# Altium schematic symbol library Schematic-Lib-ABahlmann-IC.SchLib: 124 symbols (part 3 of 4)
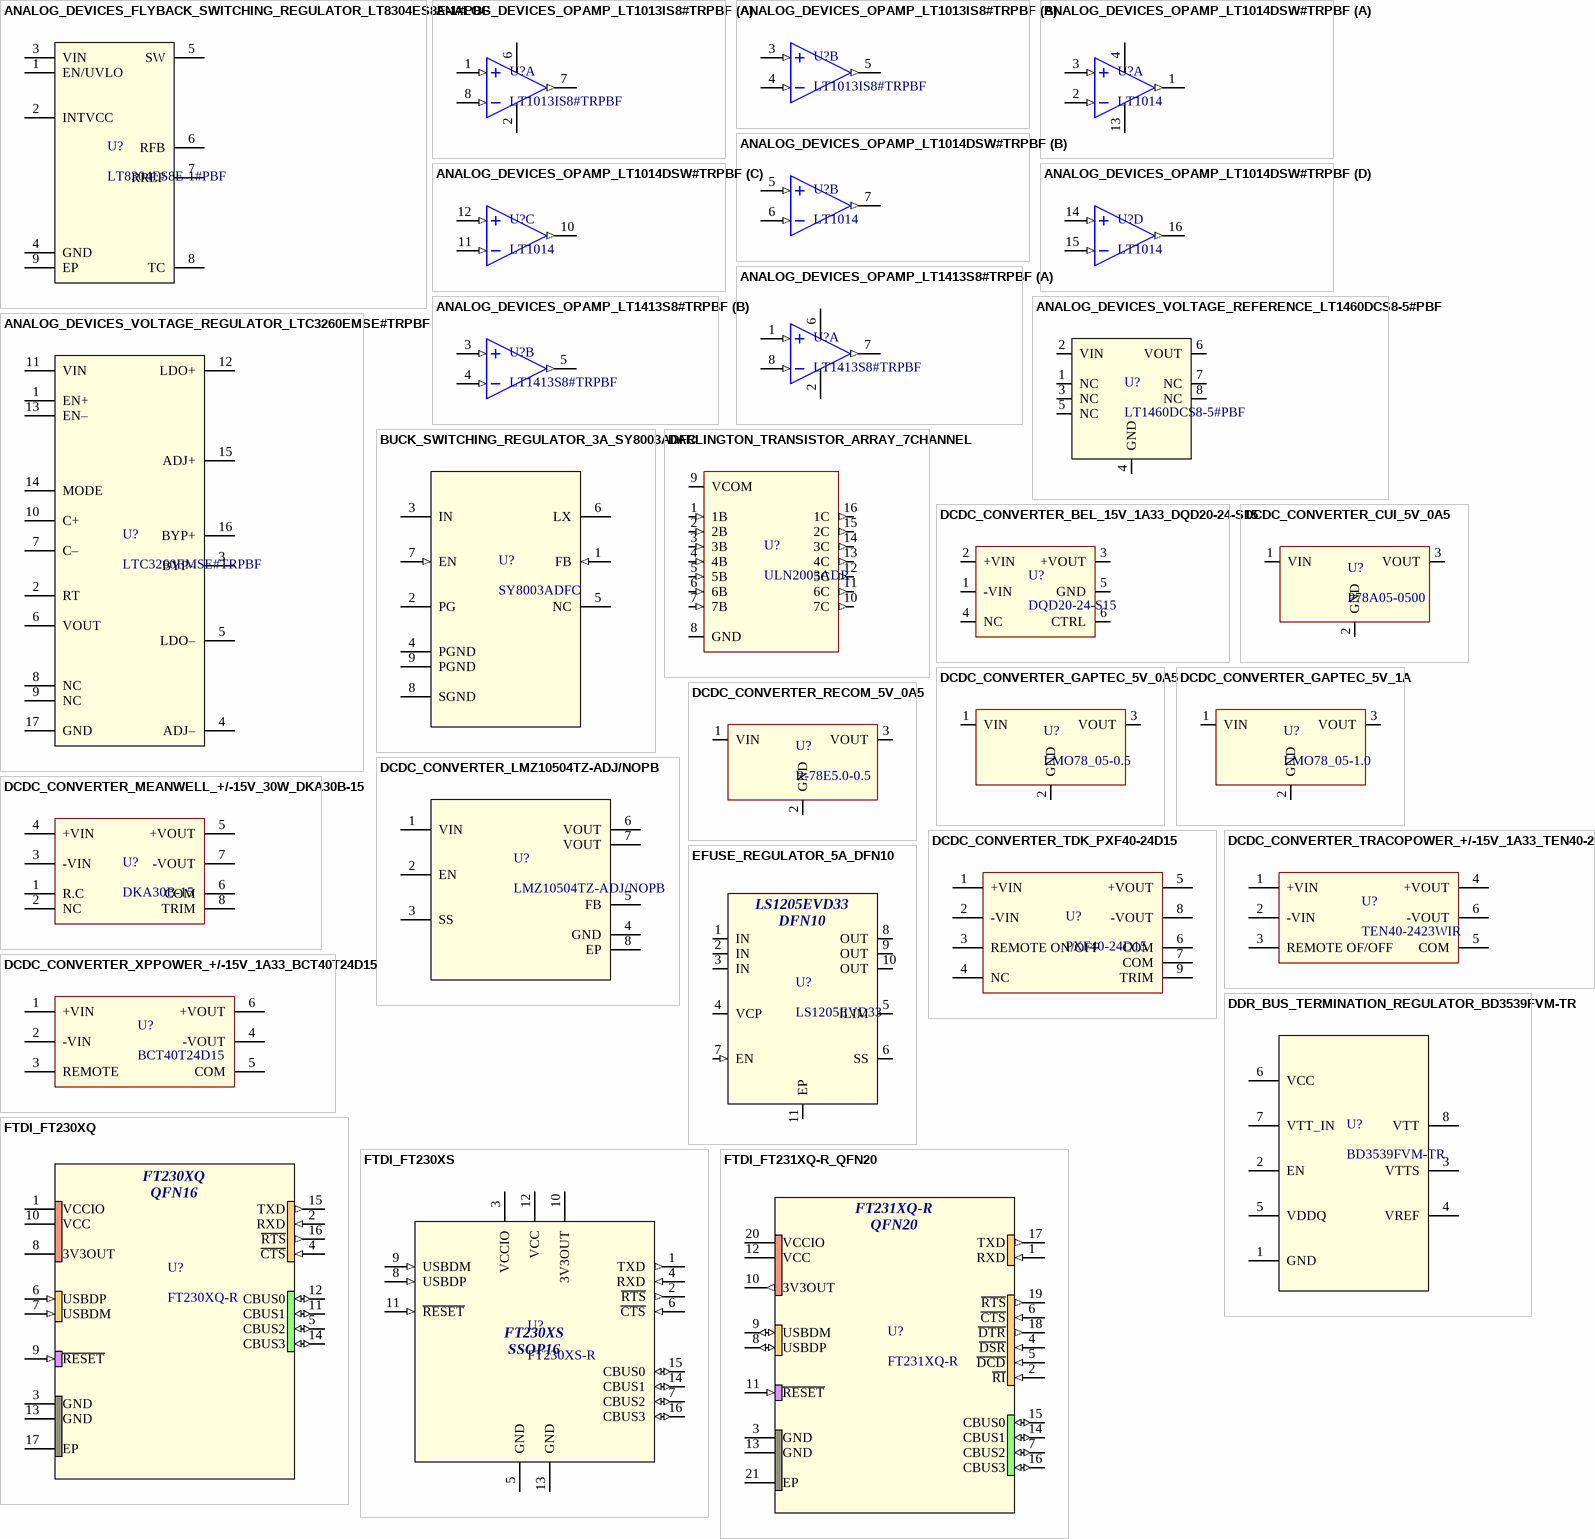
[diagram p23: symbols ANALOG_DEVICES_FLYBACK_SWITCHING_REGULATOR_LT8304ES8E-1#PBF to FTDI_FT231XQ-R_QFN20]

## EFUSE_REGULATOR_5A_DFN10
designator U?, comment LS1205EVD33
Electronic Fuse Regulator 5A 10-DFN (3x3); ComponentLink1Description: Digikey; ComponentLink1URL: https://www.digikey.ca/en/products/detail/littelfuse-inc/LS1205EVD33/16680651?s=N4IgTCBcDaIDIGUCMYAMBWAogNQCIGZ8QBdAXyA; ComponentLink2Description: Datasheet; ComponentLink2URL: https://www.littelfuse.com/assetdocs/littelfuse-protection-ic-ls1205exd33--datasheet?assetguid=b40a8809-c1ad-459d-a34c-84532dbddcb7
pins: 1 IN (power), 2 IN (power), 3 IN (power), 4 VCP, 5 ILIM, 6 SS, 7 EN (in), 8 OUT (power), 9 OUT (power), 10 OUT (power), 11 EP (power)
text: DFN10

## FTDI_FT230XQ
designator U?, comment FT230XQ-R
USB Bridge, USB to UART USB 2.0 UART Interface 16-QFN (4x4); ComponentLink1Description: Digikey; ComponentLink1URL: https://www.digikey.ca/en/products/detail/ftdi-future-technology-devices-international-ltd/FT230XQ-R/3029142; ComponentLink2Description: Datasheet; ComponentLink2URL: https://ftdichip.com/wp-content/uploads/2025/06/DS_FT230X.pdf
footprint QFN16-4x4
pins: 1 VCCIO (power), 2 RXD (in), 3 GND (power), 4 ~{CTS} (in), 5 CBUS2 (io), 6 USBDP (in), 7 USBDM (in), 8 3V3OUT (power), 9 ~{RESET} (in), 10 VCC (power), 11 CBUS1 (io), 12 CBUS0 (io), 13 GND (power), 14 CBUS3 (io), 15 TXD (out), 16 ~{RTS} (out), 17 EP (power)
text: FT230XQ; QFN16

## FTDI_FT230XS
designator U?, comment FT230XS-R
USB Bridge, USB to UART USB 2.0 UART Interface 16-SSOP; ComponentLink1Description: Digikey; ComponentLink1URL: https://www.digikey.ca/en/products/detail/ftdi-future-technology-devices-international-ltd/FT230XS-R/3029141; ComponentLink2Description: Datasheet; ComponentLink2URL: https://ftdichip.com/wp-content/uploads/2025/06/DS_FT230X.pdf
footprint SSOP-16
pins: 1 TXD (out), 2 ~{RTS} (out), 3 VCCIO (power), 4 RXD (in), 5 GND (power), 6 ~{CTS} (in), 7 CBUS2 (io), 8 USBDP (in), 9 USBDM (in), 10 3V3OUT (power), 11 ~{RESET} (in), 12 VCC (power), 13 GND (power), 14 CBUS1 (io), 15 CBUS0 (io), 16 CBUS3 (io)
text: FT230XS; SSOP16

## FTDI_FT231XQ-R_QFN20
designator U?, comment FT231XQ-R
USB Bridge, USB to UART USB 2.0 UART Interface 20-QFN (4x4); ComponentLink1Description: Digikey; ComponentLink1URL: https://www.digikey.ca/en/products/detail/ftdi-future-technology-devices-international-ltd/FT231XQ-R/3029140; ComponentLink2Description: Datasheet; ComponentLink2URL: https://ftdichip.com/wp-content/uploads/2025/06/DS_FT231X.pdf
footprint QFN20-4x4
pins: 1 RXD (in), 2 ~{RI} (in), 3 GND (power), 4 ~{DSR} (in), 5 ~{DCD} (in), 6 ~{CTS} (in), 7 CBUS2 (io), 8 USBDP (io), 9 USBDM (io), 10 3V3OUT (out), 11 ~{RESET} (in), 12 VCC (power), 13 GND (power), 14 CBUS1 (io), 15 CBUS0 (io), 16 CBUS3 (io), 17 TXD (out), 18 ~{DTR} (out), 19 ~{RTS} (out), 20 VCCIO (power), 21 EP
text: QFN20

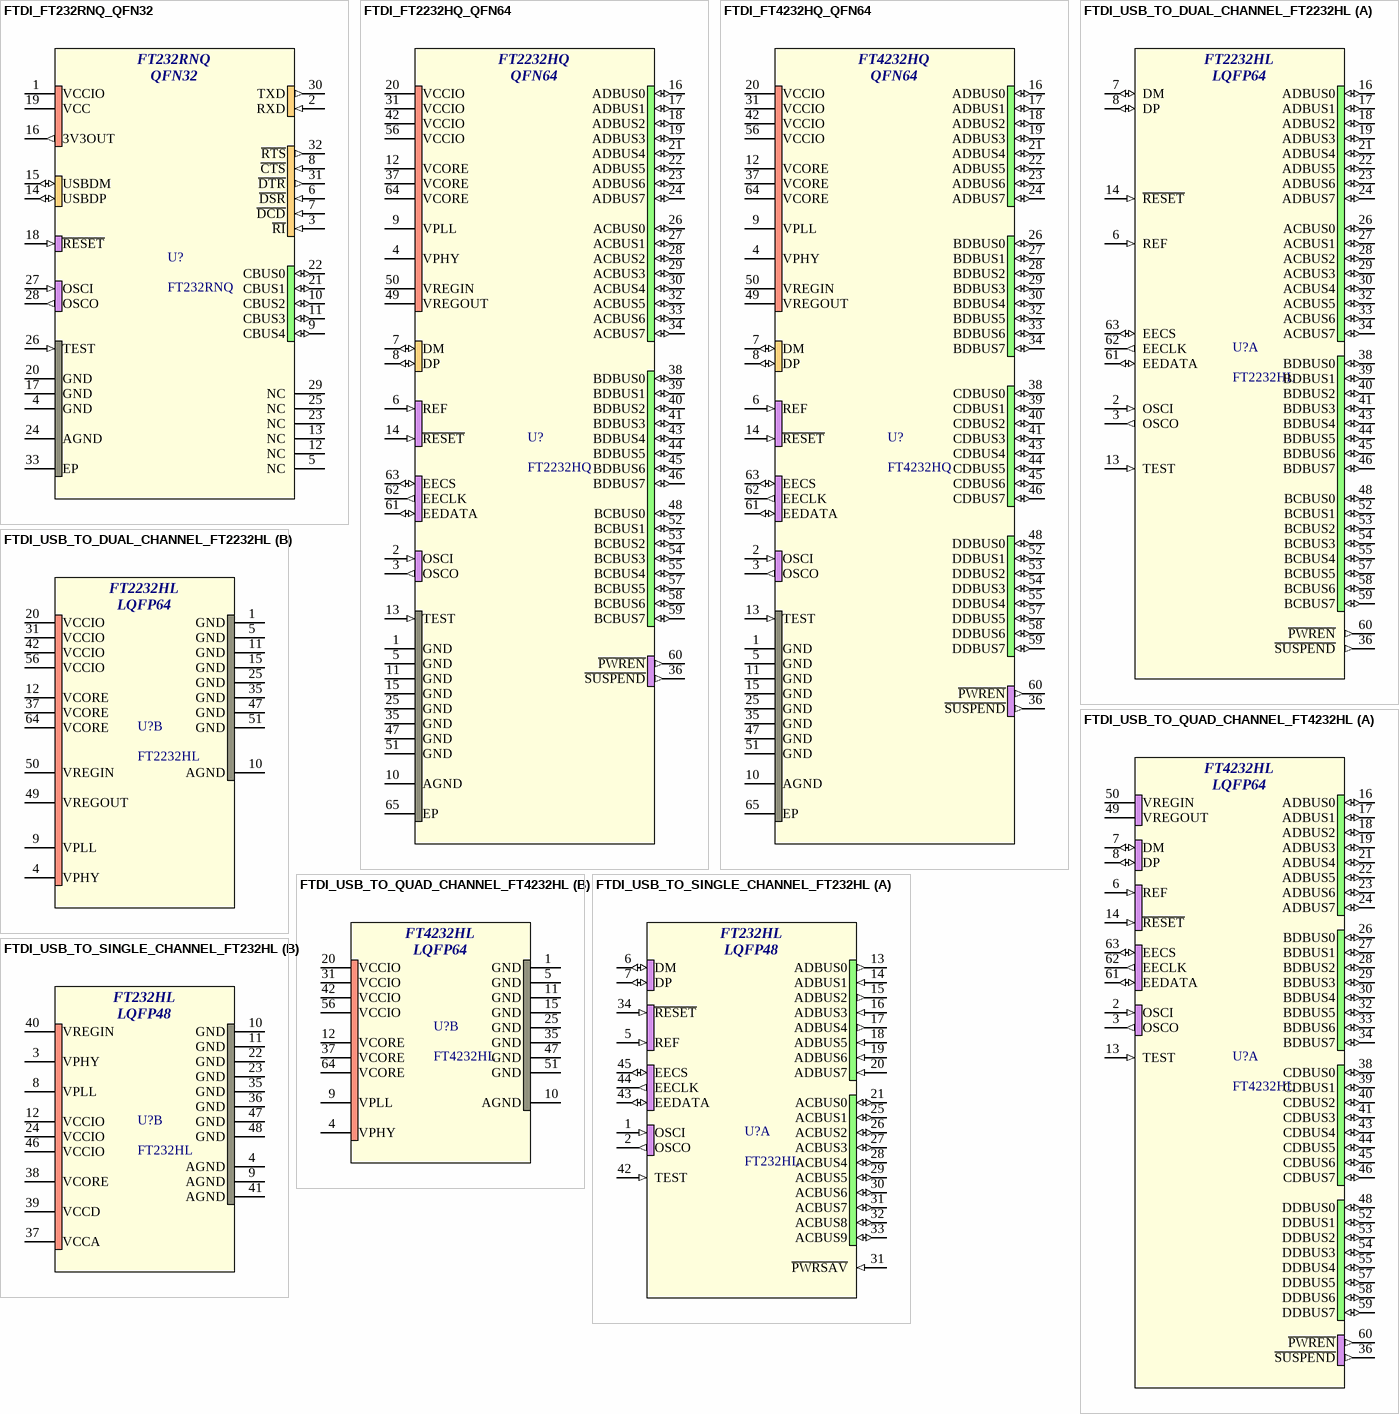
[diagram p11: symbols FTDI_FT232RNQ_QFN32 to FTDI_USB_TO_SINGLE_CHANNEL_FT232HL]

## FTDI_FT232RNQ_QFN32
designator U?, comment FT232RNQ
USB Bridge, USB to UART USB 2.0 UART Interface 32-QFN (5x5); ComponentLink1Description: Digikey; ComponentLink1URL: https://www.digikey.ca/en/products/detail/ftdi-future-technology-devices-international-ltd/FT232RNQ-REEL/16836165; ComponentLink2Description: Datasheet; ComponentLink2URL: https://ftdichip.com/wp-content/uploads/2022/07/DS_FT232RN.pdf
footprint QFN32-5x5
pins: 1 VCCIO (power), 2 RXD (in), 3 ~{RI} (in), 4 GND (power), 5 NC, 6 ~{DSR} (in), 7 ~{DCD} (in), 8 ~{CTS} (in), 9 CBUS4 (io), 10 CBUS2 (io), 11 CBUS3 (io), 12 NC, 13 NC, 14 USBDP (io), 15 USBDM (io), 16 3V3OUT (out), 17 GND (power), 18 ~{RESET} (in), 19 VCC (power), 20 GND (power), 21 CBUS1 (io), 22 CBUS0 (io), 23 NC, 24 AGND (power), 25 NC, 26 TEST (in), 27 OSCI (in), 28 OSCO (out), 29 NC, 30 TXD (out), 31 ~{DTR} (out), 32 ~{RTS} (out), 33 EP (power)
text: QFN32

## FTDI_FT2232HQ_QFN64
designator U?, comment FT2232HQ
USB Bridge, USB to UART, FIFO USB 2.0 UART Interface 64-QFN (9x9); ComponentLink1Description: Digikey; ComponentLink1URL: https://www.digikey.ca/en/products/detail/ftdi-future-technology-devices-international-ltd/FT2232HQ-REEL/1986054; ComponentLink2Description: Datasheet; ComponentLink2URL: https://ftdichip.com/wp-content/uploads/2025/11/DS_FT2232H.pdf
footprint QFN64-9x9
pins: 1 GND (power), 2 OSCI (in), 3 OSCO (out), 4 VPHY (power), 5 GND (power), 6 REF (in), 7 DM (io), 8 DP (io), 9 VPLL (power), 10 AGND (power), 11 GND (power), 12 VCORE (power), 13 TEST (in), 14 ~{RESET} (in), 15 GND (power), 16 ADBUS0 (io), 17 ADBUS1 (io), 18 ADBUS2 (io), 19 ADBUS3 (io), 20 VCCIO (power), 21 ADBUS4 (io), 22 ADBUS5 (io), 23 ADBUS6 (io), 24 ADBUS7 (io), 25 GND (power), 26 ACBUS0 (io), 27 ACBUS1 (io), 28 ACBUS2 (io), 29 ACBUS3 (io), 30 ACBUS4 (io), 31 VCCIO (power), 32 ACBUS5 (io), 33 ACBUS6 (io), 34 ACBUS7 (io), 35 GND (power), 36 ~{SUSPEND} (out), 37 VCORE (power), 38 BDBUS0 (io), 39 BDBUS1 (io), 40 BDBUS2 (io), 41 BDBUS3 (io), 42 VCCIO (power), 43 BDBUS4 (io), 44 BDBUS5 (io), 45 BDBUS6 (io), 46 BDBUS7 (io), 47 GND (power), 48 BCBUS0 (io), 49 VREGOUT (power), 50 VREGIN (power), 51 GND (power), 52 BCBUS1 (io), 53 BCBUS2 (io), 54 BCBUS3 (io), 55 BCBUS4 (io), 56 VCCIO (power), 57 BCBUS5 (io), 58 BCBUS6 (io), 59 BCBUS7 (io), 60 ~{PWREN} (out), 61 EEDATA (io), 62 EECLK (out), 63 EECS (io), 64 VCORE (power), 65 EP (power)
text: QFN64

## FTDI_FT4232HQ_QFN64
designator U?, comment FT4232HQ
USB Bridge, USB to UART USB 2.0 UART Interface 64-QFN (9x9); ComponentLink1Description: Digikey; ComponentLink1URL: https://www.digikey.ca/en/products/detail/ftdi-future-technology-devices-international-ltd/FT4232HQ-REEL/1986056; ComponentLink2Description: Datasheet; ComponentLink2URL: https://ftdichip.com/wp-content/uploads/2025/11/DS_FT4232H.pdf
footprint QFN64-9x9
pins: 1 GND (power), 2 OSCI (in), 3 OSCO (out), 4 VPHY (power), 5 GND (power), 6 REF (in), 7 DM (io), 8 DP (io), 9 VPLL (power), 10 AGND (power), 11 GND (power), 12 VCORE (power), 13 TEST (in), 14 ~{RESET} (in), 15 GND (power), 16 ADBUS0 (io), 17 ADBUS1 (io), 18 ADBUS2 (io), 19 ADBUS3 (io), 20 VCCIO (power), 21 ADBUS4 (io), 22 ADBUS5 (io), 23 ADBUS6 (io), 24 ADBUS7 (io), 25 GND (power), 26 BDBUS0 (io), 27 BDBUS1 (io), 28 BDBUS2 (io), 29 BDBUS3 (io), 30 BDBUS4 (io), 31 VCCIO (power), 32 BDBUS5 (io), 33 BDBUS6 (io), 34 BDBUS7 (io), 35 GND (power), 36 ~{SUSPEND} (out), 37 VCORE (power), 38 CDBUS0 (io), 39 CDBUS1 (io), 40 CDBUS2 (io), 41 CDBUS3 (io), 42 VCCIO (power), 43 CDBUS4 (io), 44 CDBUS5 (io), 45 CDBUS6 (io), 46 CDBUS7 (io), 47 GND (power), 48 DDBUS0 (io), 49 VREGOUT (power), 50 VREGIN (power), 51 GND (power), 52 DDBUS1 (io), 53 DDBUS2 (io), 54 DDBUS3 (io), 55 DDBUS4 (io), 56 VCCIO (power), 57 DDBUS5 (io), 58 DDBUS6 (io), 59 DDBUS7 (io), 60 ~{PWREN} (out), 61 EEDATA (io), 62 EECLK (out), 63 EECS (io), 64 VCORE (power), 65 EP (power)
text: QFN64

## FTDI_USB_TO_DUAL_CHANNEL_FT2232HL
designator U?, comment FT2232HL
USB Bridge, USB to UART,FIFO USB 2.0 UART Interface 64-LQFP (10x10); ComponentLink1Description: Digikey; ComponentLink1URL: https://www.digikey.ca/en/products/detail/ftdi-future-technology-devices-international-ltd/FT2232HL-REEL/1986053; ComponentLink2Description: Datasheet; ComponentLink2URL: https://ftdichip.com/wp-content/uploads/2025/11/DS_FT2232H.pdf; ComponentLink3Description: FTDI; ComponentLink3URL: https://ftdichip.com/products/ft2232hl/
footprint FTDI_USB_TO_DUAL_CHANNEL_FT2232HL (USB Bridge, USB to UART,FIFO USB 2.0 UART Interface 64-LQFP (10x10))
part A pins: 2 OSCI (in), 3 OSCO (out), 6 REF (in), 7 DM (io), 8 DP (io), 13 TEST (in), 14 ~{RESET} (in), 16 ADBUS0 (io), 17 ADBUS1 (io), 18 ADBUS2 (io), 19 ADBUS3 (io), 21 ADBUS4 (io), 22 ADBUS5 (io), 23 ADBUS6 (io), 24 ADBUS7 (io), 26 ACBUS0 (io), 27 ACBUS1 (io), 28 ACBUS2 (io), 29 ACBUS3 (io), 30 ACBUS4 (io), 32 ACBUS5 (io), 33 ACBUS6 (io), 34 ACBUS7 (io), 36 ~{SUSPEND} (out), 38 BDBUS0 (io), 39 BDBUS1 (io), 40 BDBUS2 (io), 41 BDBUS3 (io), 43 BDBUS4 (io), 44 BDBUS5 (io), 45 BDBUS6 (io), 46 BDBUS7 (io), 48 BCBUS0 (io), 52 BCBUS1 (io), 53 BCBUS2 (io), 54 BCBUS3 (io), 55 BCBUS4 (io), 57 BCBUS5 (io), 58 BCBUS6 (io), 59 BCBUS7 (io), 60 ~{PWREN} (out), 61 EEDATA (io), 62 EECLK (out), 63 EECS (io)
part B pins: 1 GND (power), 4 VPHY (power), 5 GND (power), 9 VPLL (power), 10 AGND (power), 11 GND (power), 12 VCORE (power), 15 GND (power), 20 VCCIO (power), 25 GND (power), 31 VCCIO (power), 35 GND (power), 37 VCORE (power), 42 VCCIO (power), 47 GND (power), 49 VREGOUT (power), 50 VREGIN (power), 51 GND (power), 56 VCCIO (power), 64 VCORE (power)
part A text: LQFP64
part B text: LQFP64

## FTDI_USB_TO_QUAD_CHANNEL_FT4232HL
designator U?, comment FT4232HL
USB Bridge, USB to UART USB 2.0 UART Interface 64-LQFP (10x10); ComponentLink1Description: Digikey; ComponentLink1URL: https://www.digikey.ca/en/products/detail/ftdi-future-technology-devices-international-ltd/FT4232HL-REEL/1986055; ComponentLink2Description: Datasheet; ComponentLink2URL: https://ftdichip.com/wp-content/uploads/2024/05/DS_FT4232H.pdf; ComponentLink3Description: FTDI; ComponentLink3URL: https://ftdichip.com/products/ft4232hl/
footprint FTDI_USB_TO_QUAD_CHANNEL_FT4232HL (USB Bridge, USB to UART USB 2.0 UART Interface 64-LQFP (10x10))
part A pins: 2 OSCI (in), 3 OSCO (out), 6 REF (in), 7 DM (io), 8 DP (io), 13 TEST (in), 14 ~{RESET} (in), 16 ADBUS0 (io), 17 ADBUS1 (io), 18 ADBUS2 (io), 19 ADBUS3 (io), 21 ADBUS4 (io), 22 ADBUS5 (io), 23 ADBUS6 (io), 24 ADBUS7 (io), 26 BDBUS0 (io), 27 BDBUS1 (io), 28 BDBUS2 (io), 29 BDBUS3 (io), 30 BDBUS4 (io), 32 BDBUS5 (io), 33 BDBUS6 (io), 34 BDBUS7 (io), 36 ~{SUSPEND} (out), 38 CDBUS0 (io), 39 CDBUS1 (io), 40 CDBUS2 (io), 41 CDBUS3 (io), 43 CDBUS4 (io), 44 CDBUS5 (io), 45 CDBUS6 (io), 46 CDBUS7 (io), 48 DDBUS0 (io), 49 VREGOUT (power), 50 VREGIN (power), 52 DDBUS1 (io), 53 DDBUS2 (io), 54 DDBUS3 (io), 55 DDBUS4 (io), 57 DDBUS5 (io), 58 DDBUS6 (io), 59 DDBUS7 (io), 60 ~{PWREN} (out), 61 EEDATA (io), 62 EECLK (out), 63 EECS (io)
part B pins: 1 GND (power), 4 VPHY (power), 5 GND (power), 9 VPLL (power), 10 AGND (power), 11 GND (power), 12 VCORE (power), 15 GND (power), 20 VCCIO (power), 25 GND (power), 31 VCCIO (power), 35 GND (power), 37 VCORE (power), 42 VCCIO (power), 47 GND (power), 51 GND (power), 56 VCCIO (power), 64 VCORE (power)
part A text: LQFP64
part B text: LQFP64

## FTDI_USB_TO_SINGLE_CHANNEL_FT232HL
designator U?, comment FT232HL
USB Bridge, USB to UART,FIFO USB 2.0 UART, FIFO Interface 48-LQFP (7x7); ComponentLink1Description: Digikey; ComponentLink1URL: https://www.digikey.ca/en/products/detail/ftdi-future-technology-devices-international-ltd/FT232HL-REEL/2614627; ComponentLink2Description: Datasheet; ComponentLink2URL: https://ftdichip.com/wp-content/uploads/2023/09/DS_FT232H.pdf; ComponentLink3Description: FTDI; ComponentLink3URL: https://ftdichip.com/products/ft232hl/
footprint FTDI_USB_TO_SINGLE_CHANNEL_FT232HL (USB Bridge, USB to UART,FIFO USB 2.0 UART, FIFO Interface 48-LQFP (7x7))
part A pins: 1 OSCI (in), 2 OSCO (out), 5 REF (in), 6 DM (io), 7 DP (io), 13 ADBUS0 (out), 14 ADBUS1 (in), 15 ADBUS2 (out), 16 ADBUS3 (in), 17 ADBUS4 (out), 18 ADBUS5 (in), 19 ADBUS6 (in), 20 ADBUS7 (in), 21 ACBUS0 (io), 25 ACBUS1 (io), 26 ACBUS2 (io), 27 ACBUS3 (io), 28 ACBUS4 (io), 29 ACBUS5 (io), 30 ACBUS6 (io), 31 ~{PWRSAV} (in), 31 ACBUS7 (io), 32 ACBUS8 (io), 33 ACBUS9 (io), 34 ~{RESET} (in), 42 TEST (in), 43 EEDATA (io), 44 EECLK (out), 45 EECS (io)
part B pins: 3 VPHY (power), 4 AGND (power), 8 VPLL (power), 9 AGND (power), 10 GND (power), 11 GND (power), 12 VCCIO (power), 22 GND (power), 23 GND (power), 24 VCCIO (power), 35 GND (power), 36 GND (power), 37 VCCA (power), 38 VCORE (power), 39 VCCD (power), 40 VREGIN (power), 41 AGND (power), 46 VCCIO (power), 47 GND (power), 48 GND (power)
part A text: LQFP48
part B text: LQFP48

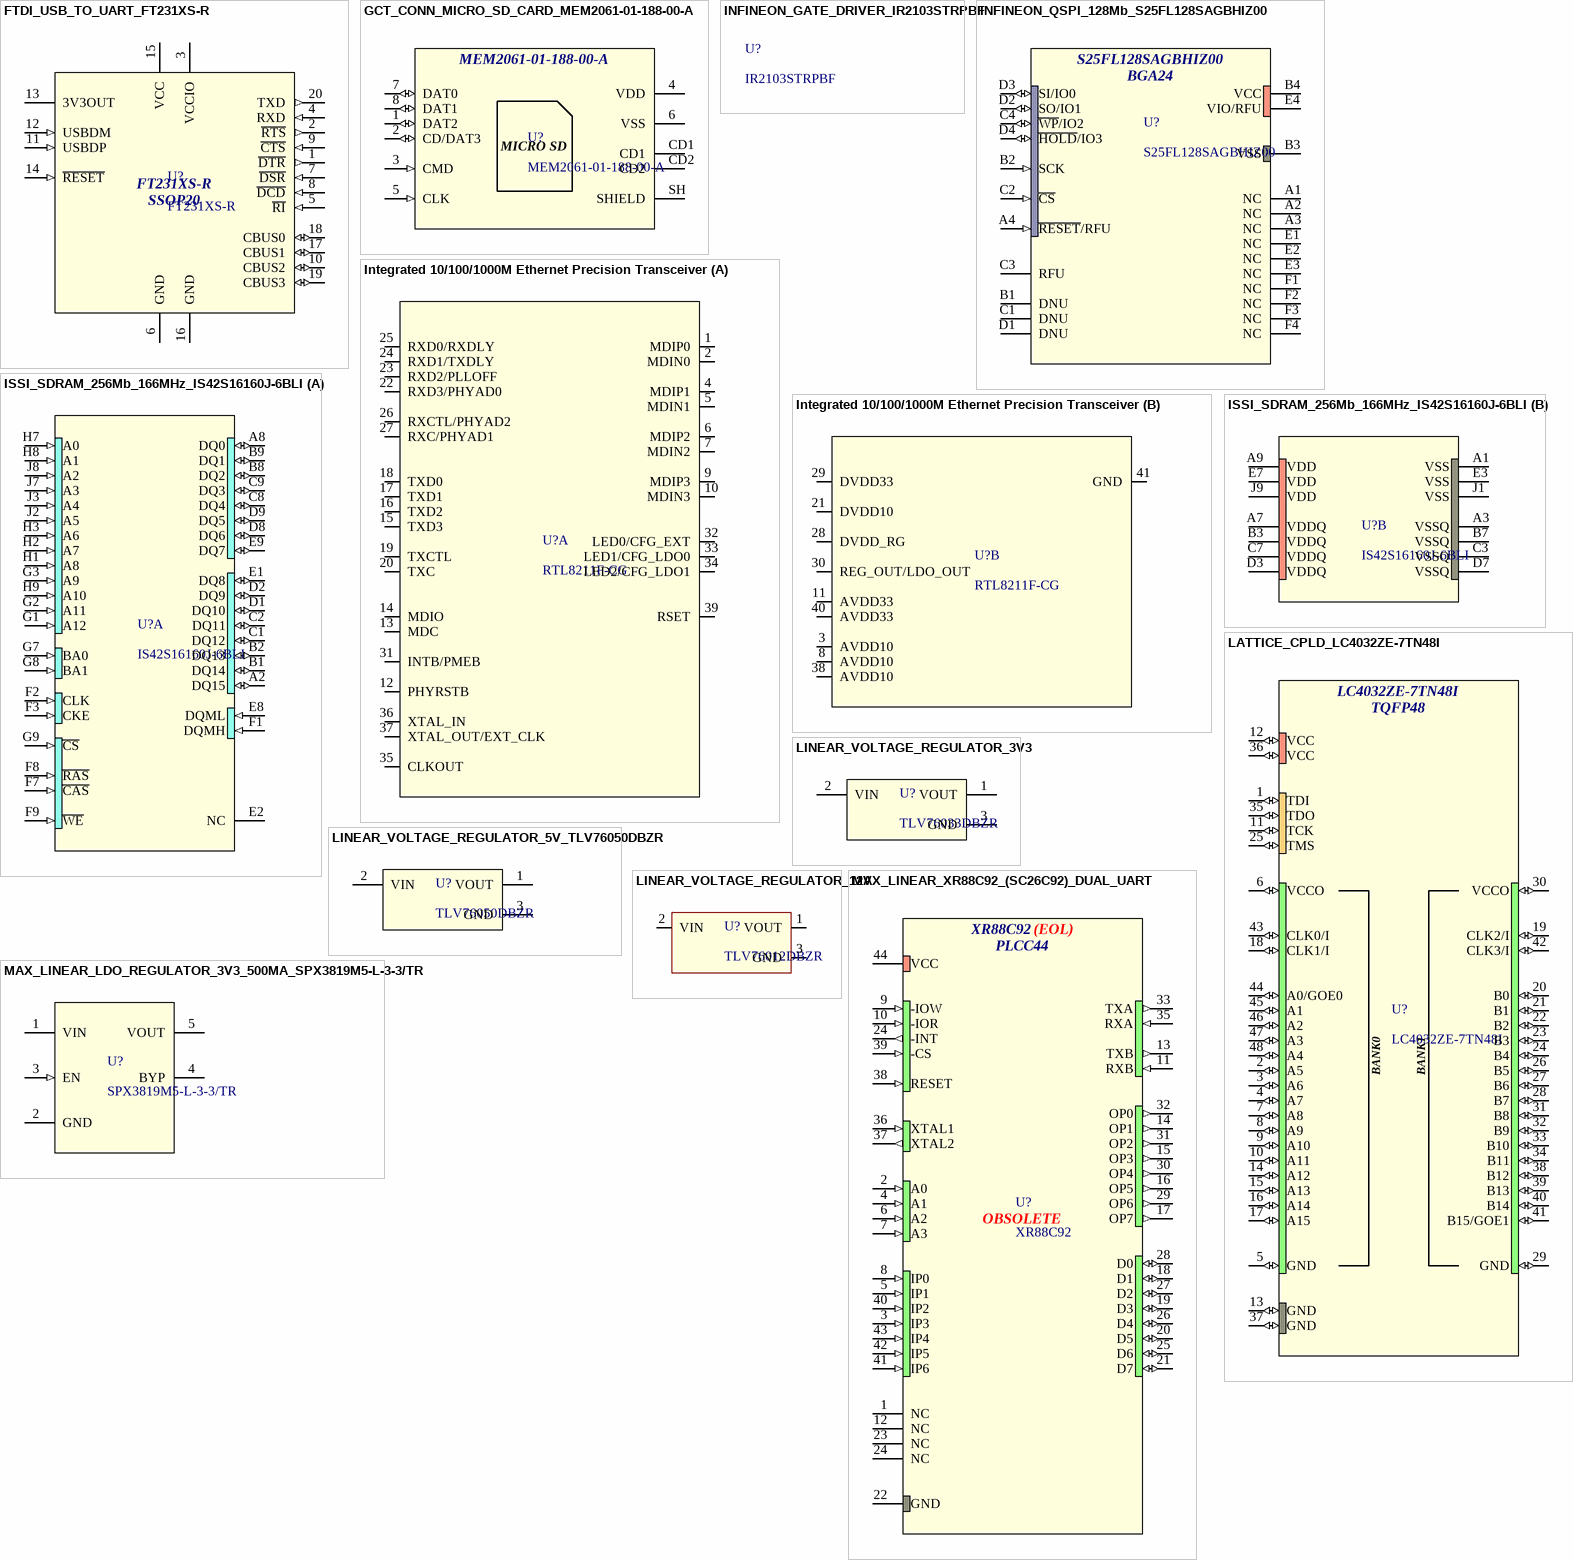
[diagram p12: symbols FTDI_USB_TO_UART_FT231XS-R to MAX_LINEAR_XR88C92_(SC26C92)_DUAL_UART]

## FTDI_USB_TO_UART_FT231XS-R
designator U?, comment FT231XS-R
USB Bridge, USB to UART USB 2.0 UART Interface 20-SSOP; ComponentLink1Description: Digikey; ComponentLink1URL: https://www.digikey.ca/en/products/detail/ftdi-future-technology-devices-international-ltd/FT231XS-R/3029139; ComponentLink2Description: Datasheet; ComponentLink2URL: https://ftdichip.com/wp-content/uploads/2025/06/DS_FT231X.pdf; ComponentLink3Description: FTDI; ComponentLink3URL: https://ftdichip.com/products/ft231xs/
footprint FTDI_USB_TO_UART_FT231XS-R (USB Bridge, USB to UART USB 2.0 UART Interface 20-SSOP)
pins: 1 ~{DTR} (out), 2 ~{RTS} (out), 3 VCCIO (power), 4 RXD (in), 5 ~{RI} (in), 6 GND (power), 7 ~{DSR} (in), 8 ~{DCD} (in), 9 ~{CTS} (in), 10 CBUS2 (io), 11 USBDP (in), 12 USBDM (in), 13 3V3OUT (power), 14 ~{RESET} (in), 15 VCC (power), 16 GND (power), 17 CBUS1 (io), 18 CBUS0 (io), 19 CBUS3 (io), 20 TXD (out)
text: SSOP20

## GCT_CONN_MICRO_SD_CARD_MEM2061-01-188-00-A
designator U?, comment MEM2061-01-188-00-A
10 (8 + 2) Position Card Connector Secure Digital - microSD™ Surface Mount, Right Angle Gold; ComponentLink1Description: Digikey; ComponentLink1URL: https://www.digikey.ca/en/products/detail/gct/MEM2061-01-188-00-A/9859612; ComponentLink2Description: Datasheet; ComponentLink2URL: https://gct.co/files/specs/mem2061-spec.pdf; ComponentLink3Description: LCSC; ComponentLink3URL: https://jlcpcb.com/partdetail/5778033-MEM2061_01_188_00A/C5151738
footprint GCT_CONN_MICRO_SD_CARD_MEM2061-01-188-00-A (10 (8 + 2) Position Card Connector Secure Digital - microSD™ Surface Mount, Right Angle Gold)
pins: 1 DAT2 (io), 2 CD/DAT3 (io), 3 CMD (in), 4 VDD (power), 5 CLK (in), 6 VSS (power), 7 DAT0 (io), 8 DAT1 (io), CD1, CD2, SH SHIELD
text: MICRO SD

## INFINEON_GATE_DRIVER_IR2103STRPBF
designator U?, comment IR2103STRPBF
Half-Bridge Gate Driver IC Inverting, Non-Inverting 8-SOIC; ComponentLink1Description: Digikey; ComponentLink1URL: https://www.digikey.ca/en/products/detail/infineon-technologies/IR2103STRPBF/812671; ComponentLink2Description: Datasheet; ComponentLink2URL: https://www.infineon.com/dgdl/ir2103.pdf?fileId=5546d462533600a4015355c7b54b166f

## INFINEON_QSPI_128Mb_S25FL128SAGBHIZ00
designator U?, comment S25FL128SAGBHIZ00
FLASH - NOR Memory IC 128Mbit SPI - Quad I/O 133 MHz 24-BGA (6x8); ComponentLink1Description: Digikey; ComponentLink1URL: https://www.digikey.com/en/products/detail/infineon-technologies/S25FL128SAGBHIZ00/3862698; ComponentLink2Description: Datasheet; ComponentLink2URL: https://www.infineon.com/assets/row/public/documents/10/49/infineon-s25fl128s-s25fl256s-128-mb-16-mb-256-mb-32-mb-fl-s-flash-spi-multi-io-3-v-datasheet-en.pdf?fileId=8ac78c8c7d0d8da4017d0ecfb6a64a17; ComponentLink3Description: LCSC; ComponentLink3URL: https://jlcpcb.com/partdetail/3331071-S25FL128SAGBHIZ00/C2944796
footprint INFINEON_QSPI_128Mb_S25FL128SAGBHIZ00 (FLASH - NOR Memory IC 128Mbit SPI - Quad I/O 133 MHz 24-BGA (6x8))
pins: A1 NC, A2 NC, A3 NC, A4 ~{RESET}/RFU (in), B1 DNU, B2 SCK (in), B3 VSS (power), B4 VCC (power), C1 DNU, C2 ~{CS} (in), C3 RFU, C4 ~{WP}/IO2 (io), D1 DNU, D2 SO/IO1 (io), D3 SI/IO0 (io), D4 ~{HOLD}/IO3 (io), E1 NC, E2 NC, E3 NC, E4 VIO/RFU (power), F1 NC, F2 NC, F3 NC, F4 NC
text: BGA24

## Integrated 10/100/1000M Ethernet Precision Transceiver
designator U?, comment RTL8211F-CG
RGMII Ethernet Transceiver WQFN-40-EP(5x5) Drivers, Receivers, Transceivers RoHS; ComponentLink1Description: LCSC; ComponentLink1URL: https://www.lcsc.com/product-detail/C187932.html; ComponentLink2Description: Datasheet; ComponentLink2URL: https://www.lcsc.com/datasheet/C187932.pdf
part A pins: 1 MDIP0, 2 MDIN0, 4 MDIP1, 5 MDIN1, 6 MDIP2, 7 MDIN2, 9 MDIP3, 10 MDIN3, 12 PHYRSTB, 13 MDC, 14 MDIO, 15 TXD3, 16 TXD2, 17 TXD1, 18 TXD0, 19 TXCTL, 20 TXC, 22 RXD3/PHYAD0, 23 RXD2/PLLOFF, 24 RXD1/TXDLY, 25 RXD0/RXDLY, 26 RXCTL/PHYAD2, 27 RXC/PHYAD1, 31 INTB/PMEB, 32 LED0/CFG_EXT, 33 LED1/CFG_LDO0, 34 LED2/CFG_LDO1, 35 CLKOUT, 36 XTAL_IN, 37 XTAL_OUT/EXT_CLK, 39 RSET
part B pins: 3 AVDD10, 8 AVDD10, 11 AVDD33, 21 DVDD10, 28 DVDD_RG, 29 DVDD33, 30 REG_OUT/LDO_OUT, 38 AVDD10, 40 AVDD33, 41 GND

## ISSI_SDRAM_256Mb_166MHz_IS42S16160J-6BLI
designator U?, comment IS42S16160J-6BLI
SDRAM Memory IC 256Mbit Parallel 166 MHz 5.4 ns 54-TFBGA (8x8); ComponentLink1Description: Digikey; ComponentLink1URL: https://www.digikey.com/en/products/detail/issi-integrated-silicon-solution-inc/IS42S16160J-6BLI/5319786; ComponentLink2Description: Datasheet; ComponentLink2URL: https://www.issi.com/WW/pdf/42-45S83200J-16160J.pdf
footprint ISSI_SDRAM_256Mb_166MHz_IS42S16160J-6BLI (SDRAM Memory IC 256Mbit Parallel 166 MHz 5.4 ns 54-TFBGA (8x8))
part A pins: A2 DQ15 (io), A8 DQ0 (io), B1 DQ14 (io), B2 DQ13 (io), B8 DQ2 (io), B9 DQ1 (io), C1 DQ12 (io), C2 DQ11 (io), C8 DQ4 (io), C9 DQ3 (io), D1 DQ10 (io), D2 DQ9 (io), D8 DQ6 (io), D9 DQ5 (io), E1 DQ8 (io), E2 NC, E8 DQML (in), E9 DQ7 (io), F1 DQMH (in), F2 CLK (in), F3 CKE (in), F7 ~{CAS} (in), F8 ~{RAS} (in), F9 ~{WE} (in), G1 A12 (in), G2 A11 (in), G3 A9 (in), G7 BA0 (in), G8 BA1 (in), G9 ~{CS} (in), H1 A8 (in), H2 A7 (in), H3 A6 (in), H7 A0 (in), H8 A1 (in), H9 A10 (in), J2 A5 (in), J3 A4 (in), J7 A3 (in), J8 A2 (in)
part B pins: A1 VSS (power), A3 VSSQ (power), A7 VDDQ (power), A9 VDD (power), B3 VDDQ (power), B7 VSSQ (power), C3 VSSQ (power), C7 VDDQ (power), D3 VDDQ (power), D7 VSSQ (power), E3 VSS (power), E7 VDD (power), J1 VSS (power), J9 VDD (power)

## LATTICE_CPLD_LC4032ZE-7TN48I
designator U?, comment LC4032ZE-7TN48I
IC CPLD 32MC 7.5NS 48TQFP; ComponentLink1Description: Digikey; ComponentLink1URL: https://www.digikey.com/en/products/detail/lattice-semiconductor-corporation/LC4032ZE-7TN48I/2641815; ComponentLink2Description: Datasheet; ComponentLink2URL: https://www.latticesemi.com/~/media/LatticeSemi/Documents/Solutions/Packaging%20Solutions/ispMACH4000ZE%20Family%20Data%20Sheet1022.pdf; ComponentLink3Description: LCSC; ComponentLink3URL: https://jlcpcb.com/partdetail/Lattice-LC4032ZE7TN48I/C1521174
pins: 1 TDI (io), 2 A5 (io), 3 A6 (io), 4 A7 (io), 5 GND (io), 6 VCCO (io), 7 A8 (io), 8 A9 (io), 9 A10 (io), 10 A11 (io), 11 TCK (io), 12 VCC (io), 13 GND (io), 14 A12 (io), 15 A13 (io), 16 A14 (io), 17 A15 (io), 18 CLK1/I (io), 19 CLK2/I (io), 20 B0 (io), 21 B1 (io), 22 B2 (io), 23 B3 (io), 24 B4 (io), 25 TMS (io), 26 B5 (io), 27 B6 (io), 28 B7 (io), 29 GND (io), 30 VCCO (io), 31 B8 (io), 32 B9 (io), 33 B10 (io), 34 B11 (io), 35 TDO (io), 36 VCC (io), 37 GND (io), 38 B12 (io), 39 B13 (io), 40 B14 (io), 41 B15/GOE1 (io), 42 CLK3/I (io), 43 CLK0/I (io), 44 A0/GOE0 (io), 45 A1 (io), 46 A2 (io), 47 A3 (io), 48 A4 (io)
text: TQFP48; BANK0; BANK1

## LINEAR_VOLTAGE_REGULATOR_3V3
designator U?, comment TLV76033DBZR
Linear Voltage Regulator IC Positive Fixed 1 Output 3V3 100mA SOT-23-3; ComponentLink1Description: Digikey; ComponentLink1URL: https://www.digikey.ca/en/products/detail/texas-instruments/TLV76033DBZR/7402851?s=N4IgTCBcDaICoBkBqB2AbABgMxYCICEAtAJRAF0BfIA; ComponentLink2Description: Datasheet; ComponentLink2URL: https://www.ti.com/general/docs/suppproductinfo.tsp?distId=10&gotoUrl=https%3A%2F%2Fwww.ti.com%2Flit%2Fgpn%2Ftlv760; ComponentLink3Description: LCSC; ComponentLink3URL: https://www.lcsc.com/product-detail/C2683368.html?s_z=n_TLV76033DBZR
footprint SOT-23-3
pins: 1 VOUT, 2 VIN, 3 GND

## LINEAR_VOLTAGE_REGULATOR_5V_TLV76050DBZR
designator U?, comment TLV76050DBZR
Linear Voltage Regulator IC Positive Fixed 1 Output 5V 100mA SOT-23-3; ComponentLink1Description: Digikey; ComponentLink1URL: https://www.digikey.ca/en/products/detail/texas-instruments/TLV76050DBZR/7402852; ComponentLink2Description: Datasheet; ComponentLink2URL: https://www.ti.com/general/docs/suppproductinfo.tsp?distId=10&gotoUrl=https%3A%2F%2Fwww.ti.com%2Flit%2Fgpn%2Ftlv760; ComponentLink3Description: LCSC; ComponentLink3URL: https://www.lcsc.com/product-detail/C2867465.html?s_z=n_TLV76050DBZR
footprint LINEAR_VOLTAGE_REGULATOR_5V_TLV76050DBZR (Linear Voltage Regulator IC Positive Fixed 1 Output 5V 100mA SOT)
pins: 1 VOUT (power), 2 VIN (power), 3 GND (power)

## LINEAR_VOLTAGE_REGULATOR_12V
designator U?, comment TLV76012DBZR
Linear Voltage Regulator IC Positive Fixed 1 Output 12V 100mA SOT-23-3; ComponentLink1Description: Digikey; ComponentLink1URL: https://www.digikey.ca/en/products/detail/texas-instruments/TLV76012DBZR/7402849; ComponentLink2Description: Datasheet; ComponentLink2URL: https://www.ti.com/general/docs/suppproductinfo.tsp?distId=10&gotoUrl=https%3A%2F%2Fwww.ti.com%2Flit%2Fgpn%2Ftlv760; ComponentLink3Description: LCSC; ComponentLink3URL: https://www.lcsc.com/product-detail/C2872732.html?s_z=n_TLV76012DBZR
footprint SOT-23-3
pins: 1 VOUT, 2 VIN, 3 GND

## MAX_LINEAR_LDO_REGULATOR_3V3_500MA_SPX3819M5-L-3-3/TR
designator U?, comment SPX3819M5-L-3-3/TR
Linear Voltage Regulator IC Positive Fixed 1 Output 500mA SOT-23-5; ComponentLink1Description: Digikey; ComponentLink1URL: https://www.digikey.ca/en/products/detail/maxlinear-inc/SPX3819M5-L-3-3-TR/2472394?s=N4IgTCBcDaIMoAUAaBmAHARgJwFkCsAtADIEqkD0AKgEogC6AvkA; ComponentLink2Description: Datasheet; ComponentLink2URL: https://mm.digikey.com/Volume0/opasdata/d220001/medias/docus/6642/1016_SPX3819.pdf
pins: 1 VIN (power), 2 GND (power), 3 EN (in), 4 BYP (power), 5 VOUT (power)

## MAX_LINEAR_XR88C92_(SC26C92)_DUAL_UART
designator U?, comment XR88C92
Dual UART with 8 Bytes Transmit and Receive FIFO; ComponentLink1Description: Manufacturer; ComponentLink1URL: https://www.maxlinear.com/product/interface/uarts/8-bit-vlio-uarts/xr88c92; ComponentLink2Description: Datasheet; ComponentLink2URL: https://www.maxlinear.com/ds/xr88c92_xr88c192.pdf
footprint PLCC-44
footprint PLCC-44_NO_STP
footprint PLCC-44_NO_STP_V2
pins: 1 NC, 2 A0 (in), 3 IP3 (in), 4 A1 (in), 5 IP1 (in), 6 A2 (in), 7 A3 (in), 8 IP0 (in), 9 -IOW (in), 10 -IOR (in), 11 RXB (in), 12 NC, 13 TXB (out), 14 OP1 (out), 15 OP3 (out), 16 OP5 (out), 17 OP7 (out), 18 D1 (io), 19 D3 (io), 20 D5 (io), 21 D7 (io), 22 GND (power), 23 NC, 24 -INT (out), 24 NC, 25 D6 (io), 26 D4 (io), 27 D2 (io), 28 D0 (io), 29 OP6 (out), 30 OP4 (out), 31 OP2 (out), 32 OP0 (out), 33 TXA (out), 35 RXA (in), 36 XTAL1 (in), 37 XTAL2 (out), 38 RESET (in), 39 -CS (in), 40 IP2 (in), 41 IP6 (in), 42 IP5 (in), 43 IP4 (in), 44 VCC (power)
text: (EOL); PLCC44; OBSOLETE

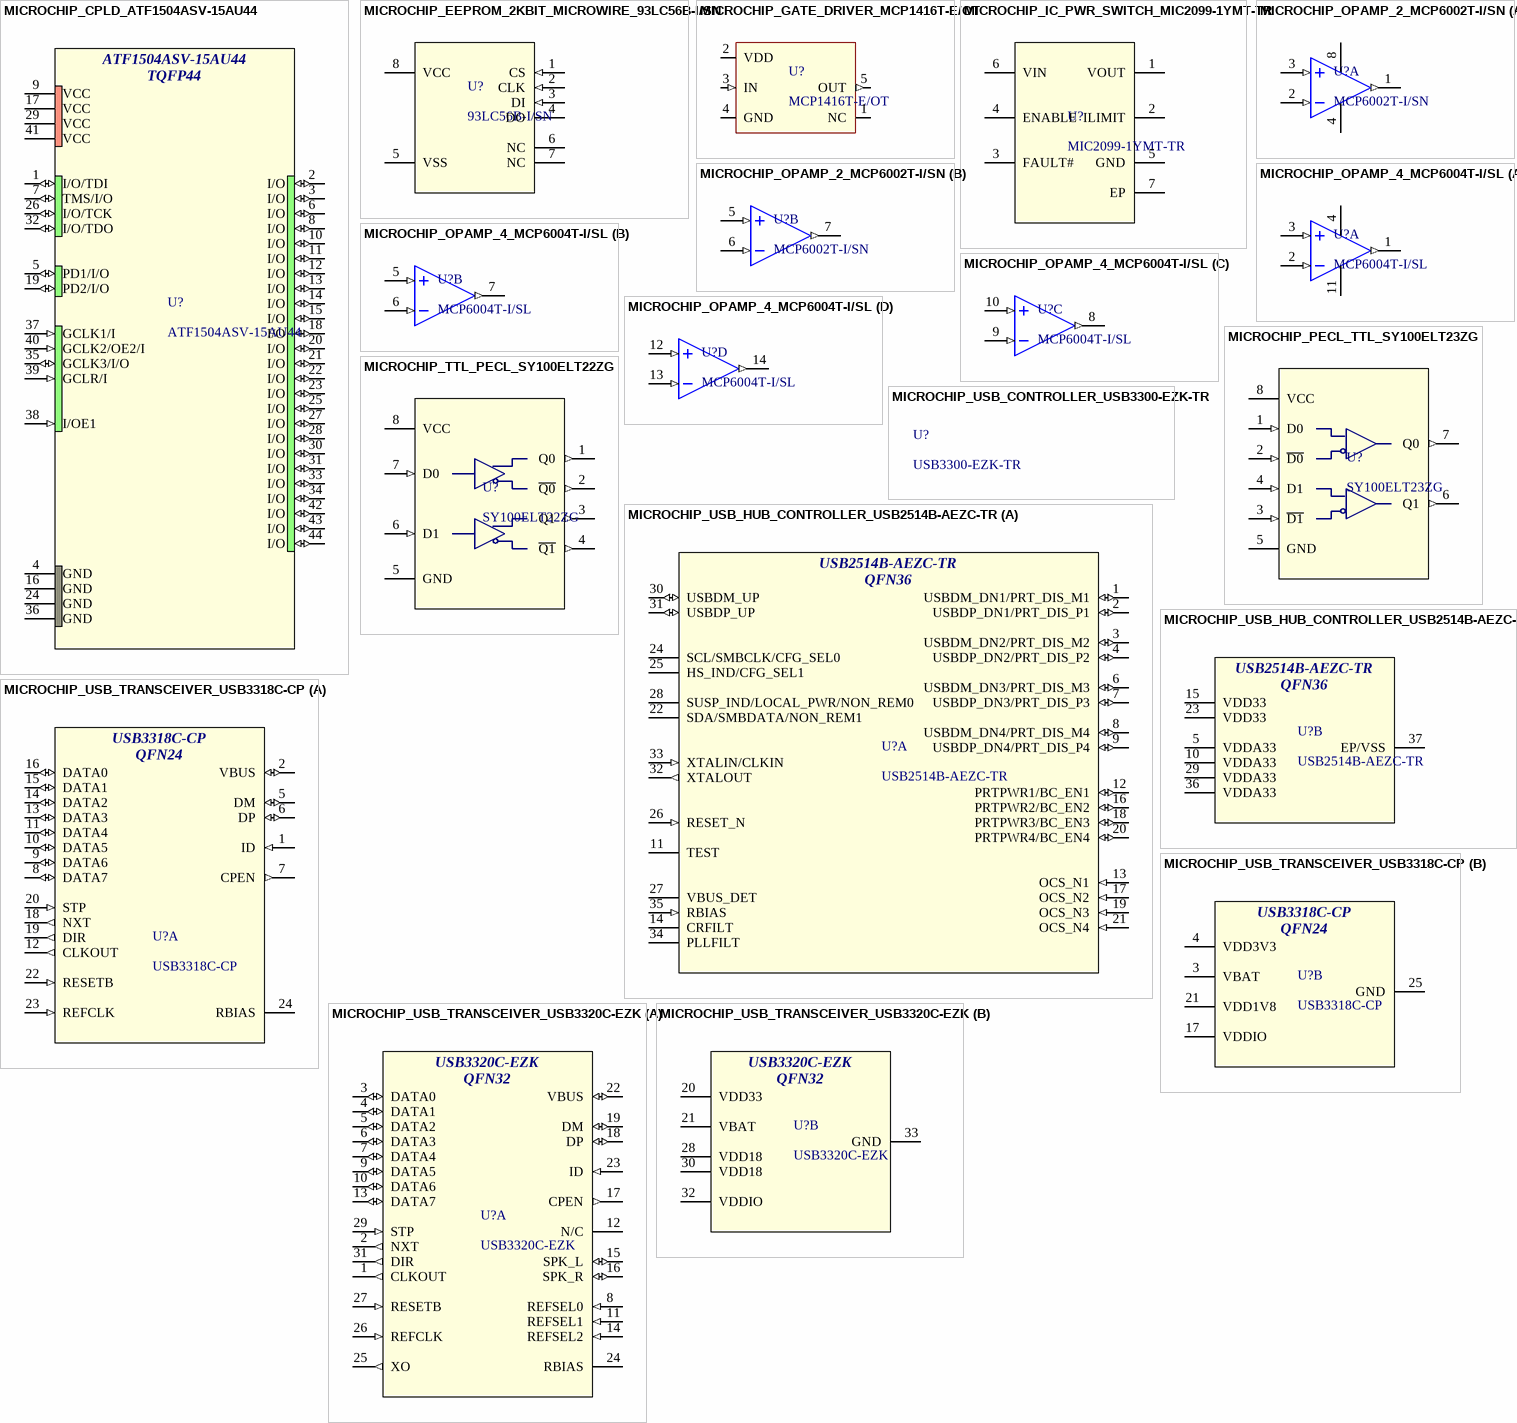
[diagram p13: symbols MICROCHIP_CPLD_ATF1504ASV-15AU44 to MICROCHIP_USB_TRANSCEIVER_USB3320C-EZK]

## MICROCHIP_CPLD_ATF1504ASV-15AU44
designator U?, comment ATF1504ASV-15AU44
IC CPLD 64MC 15NS 44TQFP; ComponentLink1Description: Manufacturer; ComponentLink1URL: https://www.digikey.ca/en/products/detail/microchip-technology/ATF1504ASV-15AU44/1008326; ComponentLink2Description: Datasheet; ComponentLink2URL: https://ww1.microchip.com/downloads/en/DeviceDoc/ATF1504ASV-ATF1504ASVL-Data-Sheet-20006185A.pdf
footprint TQFP-44-0.8MM-10X10
pins: 1 I/O/TDI (io), 2 I/O (io), 3 I/O (io), 4 GND (power), 5 PD1/I/O (io), 6 I/O (io), 7 TMS/I/O (io), 8 I/O (io), 9 VCC (power), 10 I/O (io), 11 I/O (io), 12 I/O (io), 13 I/O (io), 14 I/O (io), 15 I/O (io), 16 GND (power), 17 VCC (power), 18 I/O (io), 19 PD2/I/O (io), 20 I/O (io), 21 I/O (io), 22 I/O (io), 23 I/O (io), 24 GND (power), 25 I/O (io), 26 I/O/TCK (io), 27 I/O (io), 28 I/O (io), 29 VCC (power), 30 I/O (io), 31 I/O (io), 32 I/O/TDO (io), 33 I/O (io), 34 I/O (io), 35 GCLK3/I/O (io), 36 GND (power), 37 GCLK1/I (in), 38 I/OE1 (in), 39 GCLR/I (in), 40 GCLK2/OE2/I (in), 41 VCC (power), 42 I/O (io), 43 I/O (io), 44 I/O (io)
text: TQFP44

## MICROCHIP_EEPROM_2KBIT_MICROWIRE_93LC56B-I/SN
designator U?, comment 93LC56B-I/SN
EEPROM Memory IC 2Kbit Microwire 2 MHz 8-SOIC; ComponentLink1Description: Digikey; ComponentLink1URL: https://www.digikey.ca/en/products/detail/microchip-technology/93LC56B-I-SN/264031; ComponentLink2Description: Datasheet; ComponentLink2URL: https://ww1.microchip.com/downloads/en/DeviceDoc/21794G.pdf
pins: 1 CS (in), 2 CLK (in), 3 DI (in), 4 DO, 5 VSS (power), 6 NC, 7 NC, 8 VCC (power)

## MICROCHIP_GATE_DRIVER_MCP1416T-E/OT
designator U?, comment MCP1416T-E/OT
Low-Side Gate Driver IC Non-Inverting SOT-23-5; ComponentLink1Description: Digikey; ComponentLink1URL: https://www.digikey.ca/en/products/detail/microchip-technology/MCP1416T-E-OT/1947978; ComponentLink2Description: Datasheet; ComponentLink2URL: https://ww1.microchip.com/downloads/en/DeviceDoc/20002092G.pdf
pins: 1 NC, 2 VDD (power), 3 IN (in), 4 GND (power), 5 OUT (out)

## MICROCHIP_IC_PWR_SWITCH_MIC2099-1YMT-TR
designator U?, comment MIC2099-1YMT-TR
Power Switch/Driver 1:1 P-Channel 1.1A 6-TMLF® (1.6x1.6); ComponentLink1Description: Digikey; ComponentLink1URL: https://www.digikey.com/en/products/detail/microchip-technology/MIC2099-1YMT-TR/2465911; ComponentLink2Description: Datasheet; ComponentLink2URL: https://ww1.microchip.com/downloads/en/DeviceDoc/mic2095.pdf
pins: 1 VOUT (power), 2 ILIMIT (power), 3 FAULT# (power), 4 ENABLE (power), 5 GND (power), 6 VIN (power), 7 EP (power)

## MICROCHIP_OPAMP_2_MCP6002T-I/SN
designator U?, comment MCP6002T-I/SN
Standard (General Purpose) Amplifier 2 Circuit Rail-to-Rail 8-SOIC; ComponentLink1Description: Digikey; ComponentLink1URL: https://www.digikey.ca/en/products/detail/microchip-technology/MCP6002T-I-SN/500878; ComponentLink2Description: Datasheet; ComponentLink2URL: https://ww1.microchip.com/downloads/en/DeviceDoc/MCP6001-1R-1U-2-4-1-MHz-Low-Power-Op-Amp-DS20001733L.pdf
footprint SOIC-8 (1.27mm pitch)
part A pins: 1 VOUTA (out), 2 VINA- (in), 3 VINA+ (in), 4 VSS (power), 8 VDD (power)
part B pins: 5 VINB+ (in), 6 VINB- (in), 7 VOUTB (out)

## MICROCHIP_OPAMP_4_MCP6004T-I/SL
designator U?, comment MCP6004T-I/SL
Standard (General Purpose) Amplifier 4 Circuit Rail-to-Rail 14-SOIC; ComponentLink1Description: Digikey; ComponentLink1URL: https://www.digikey.ca/en/products/detail/microchip-technology/MCP6004T-I-SL/523092; ComponentLink2Description: Datasheet; ComponentLink2URL: https://ww1.microchip.com/downloads/en/DeviceDoc/MCP6001-1R-1U-2-4-1-MHz-Low-Power-Op-Amp-DS20001733L.pdf
footprint SOIC-14_MCP6004T-I/SL (Standard (General Purpose) Amplifier 4 Circuit Rail-to-Rail 14-SOIC)
part A pins: 1 VOUTA (out), 2 VINA- (in), 3 VINA+ (in), 4 VDD (power), 11 VSS (power)
part B pins: 5 VINB+ (in), 6 VINB- (in), 7 VOUTB (out)
part C pins: 8 VOUTC (out), 9 VINC- (in), 10 VINC+ (in)
part D pins: 12 VIND+ (in), 13 VIND- (in), 14 VOUTD (out)

## MICROCHIP_PECL_TTL_SY100ELT23ZG
designator U?, comment SY100ELT23ZG
Mixed Signal Translator Unidirectional 2 Circuit 2 Channel 8-SOIC; Manufacturer: Microchip Technology; Manufacturer Part Number: SY100ELT23ZG; Distributor Link: *; LCSC: C637616; Rating: *; ComponentLink1Description: Digikey; ComponentLink1URL: https://www.digikey.ca/en/products/detail/microchip-technology/SY100ELT23ZG/771955; ComponentLink2Description: Datasheet; ComponentLink2URL: https://ww1.microchip.com/downloads/en/DeviceDoc/SY100ELT23-Dual-Differential-PECL-to-TTL-Translator-DS20006235A.pdf
footprint SOIC-8 (1.27mm pitch)
pins: 1 D0 (in), 2 ~{D0} (in), 3 ~{D1} (in), 4 D1 (in), 5 GND (power), 6 Q1 (out), 7 Q0 (out), 8 VCC (power)

## MICROCHIP_TTL_PECL_SY100ELT22ZG
designator U?, comment SY100ELT22ZG
Mixed Signal Translator Unidirectional 1 Circuit 2 Channel 8-SOIC; Manufacturer: Microchip Technology; Manufacturer Part Number: SY100ELT22ZG; Distributor Link: *; LCSC: C637614; Rating: *; ComponentLink1Description: Digikey; ComponentLink1URL: https://www.digikey.com/en/products/detail/microchip-technology/SY100ELT22ZG/771953; ComponentLink2Description: Datasheet; ComponentLink2URL: https://ww1.microchip.com/downloads/aemDocuments/documents/OTH/ProductDocuments/DataSheets/SY100ELT22-Dual-TTL-to-Differental-PECL-Translator-DS20005996A.pdf
footprint SOIC-8 (1.27mm pitch)
pins: 1 Q0 (out), 2 ~{Q0} (out), 3 Q1 (out), 4 ~{Q1} (out), 5 GND (power), 6 D1 (in), 7 D0 (in), 8 VCC (power)

## MICROCHIP_USB_CONTROLLER_USB3300-EZK-TR
designator U?, comment USB3300-EZK-TR
USB Controller USB 2.0, OTG ULPI Interface 32-QFN (5x5); ComponentLink1Description: Digikey; ComponentLink1URL: https://www.digikey.ca/en/products/detail/microchip-technology/USB3300-EZK-TR/3873181; ComponentLink2Description: Datasheet; ComponentLink2URL: https://ww1.microchip.com/downloads/aemDocuments/documents/OTH/ProductDocuments/DataSheets/00001783C.pdf

## MICROCHIP_USB_HUB_CONTROLLER_USB2514B-AEZC-TR
designator U?, comment USB2514B-AEZC-TR
USB Hub Controller USB Interface 36-QFN (6x6); ComponentLink1Description: Manufacturer; ComponentLink1URL: https://www.digikey.ca/en/products/detail/microchip-technology/USB2514B-AEZC-TR/3873164; ComponentLink2Description: Datasheet; ComponentLink2URL: https://ww1.microchip.com/downloads/en/DeviceDoc/00001692C.pdf; ComponentLink3Description: LCSC; ComponentLink3URL: https://jlcpcb.com/partdetail/MicrochipTech-USB2514B_AEZCTR/C16251
part A pins: 1 USBDM_DN1/PRT_DIS_M1 (io), 2 USBDP_DN1/PRT_DIS_P1 (io), 3 USBDM_DN2/PRT_DIS_M2 (io), 4 USBDP_DN2/PRT_DIS_P2 (io), 6 USBDM_DN3/PRT_DIS_M3 (io), 7 USBDP_DN3/PRT_DIS_P3 (io), 8 USBDM_DN4/PRT_DIS_M4 (io), 9 USBDP_DN4/PRT_DIS_P4 (io), 11 TEST, 12 PRTPWR1/BC_EN1 (io), 13 OCS_N1 (in), 14 CRFILT, 16 PRTPWR2/BC_EN2 (io), 17 OCS_N2 (in), 18 PRTPWR3/BC_EN3 (io), 19 OCS_N3 (in), 20 PRTPWR4/BC_EN4 (io), 21 OCS_N4 (in), 22 SDA/SMBDATA/NON_REM1 (power), 24 SCL/SMBCLK/CFG_SEL0 (power), 25 HS_IND/CFG_SEL1 (power), 26 RESET_N (in), 27 VBUS_DET, 28 SUSP_IND/LOCAL_PWR/NON_REM0 (power), 30 USBDM_UP (io), 31 USBDP_UP (io), 32 XTALOUT (out), 33 XTALIN/CLKIN (in), 34 PLLFILT, 35 RBIAS (in)
part B pins: 5 VDDA33 (power), 10 VDDA33 (power), 15 VDD33 (power), 23 VDD33 (power), 29 VDDA33 (power), 36 VDDA33 (power), 37 EP/VSS (power)
part A text: QFN36
part B text: QFN36

## MICROCHIP_USB_TRANSCEIVER_USB3318C-CP
designator U?, comment USB3318C-CP
Transceiver Half USB 2.0 24-QFN (4x4); ComponentLink1Description: Digikey; ComponentLink1URL: https://www.digikey.ca/en/products/detail/microchip-technology/USB3318C-CP-TR/3873187; ComponentLink2Description: Datasheet; ComponentLink2URL: https://ww1.microchip.com/downloads/en/DeviceDoc/3318.pdf; ComponentLink3Description: LCSC; ComponentLink3URL: https://jlcpcb.com/partdetail/MicrochipTech-USB3318C_CPTR/C622617
footprint MICROCHIP_USB_TRANSCEIVER_USB3318C-CP (Transceiver Half USB 2.0 24-QFN (4x4))
part A pins: 1 ID (in), 2 VBUS (io), 5 DM (io), 6 DP (io), 7 CPEN (out), 8 DATA7 (io), 9 DATA6 (io), 10 DATA5 (io), 11 DATA4 (io), 12 CLKOUT (out), 13 DATA3 (io), 14 DATA2 (io), 15 DATA1 (io), 16 DATA0 (io), 18 NXT (out), 19 DIR (out), 20 STP (in), 22 RESETB (in), 23 REFCLK (in), 24 RBIAS (power)
part B pins: 3 VBAT (power), 4 VDD3V3 (power), 17 VDDIO (power), 21 VDD1V8 (power), 25 GND (power)
part A text: QFN24
part B text: QFN24

## MICROCHIP_USB_TRANSCEIVER_USB3320C-EZK
designator U?, comment USB3320C-EZK
1/1 Transceiver Half USB 2.0 32-QFN (5x5); ComponentLink1Description: Manufacturer; ComponentLink1URL: https://www.digikey.ca/en/products/detail/microchip-technology/USB3320C-EZK/3873190; ComponentLink2Description: Datasheet; ComponentLink2URL: https://ww1.microchip.com/downloads/en/DeviceDoc/00001792E.pdf; ComponentLink3Description: LCSC; ComponentLink3URL: https://jlcpcb.com/partdetail/MicrochipTech-USB3320CEZK/C52447
footprint MICROCHIP_USB_TRANSCEIVER_USB3320C-EZK (1/1 Transceiver Half USB 2.0 32-QFN (5x5))
part A pins: 1 CLKOUT (out), 2 NXT (out), 3 DATA0 (io), 4 DATA1 (io), 5 DATA2 (io), 6 DATA3 (io), 7 DATA4 (io), 8 REFSEL0 (in), 9 DATA5 (io), 10 DATA6 (io), 11 REFSEL1 (in), 12 N/C, 13 DATA7 (io), 14 REFSEL2 (in), 15 SPK_L (io), 16 SPK_R (io), 17 CPEN (out), 18 DP (io), 19 DM (io), 22 VBUS (io), 23 ID (in), 24 RBIAS, 25 XO (out), 26 REFCLK (in), 27 RESETB (in), 29 STP (in), 31 DIR (out)
part B pins: 20 VDD33 (power), 21 VBAT (power), 28 VDD18 (power), 30 VDD18 (power), 32 VDDIO (power), 33 GND (power)
part A text: QFN32
part B text: QFN32

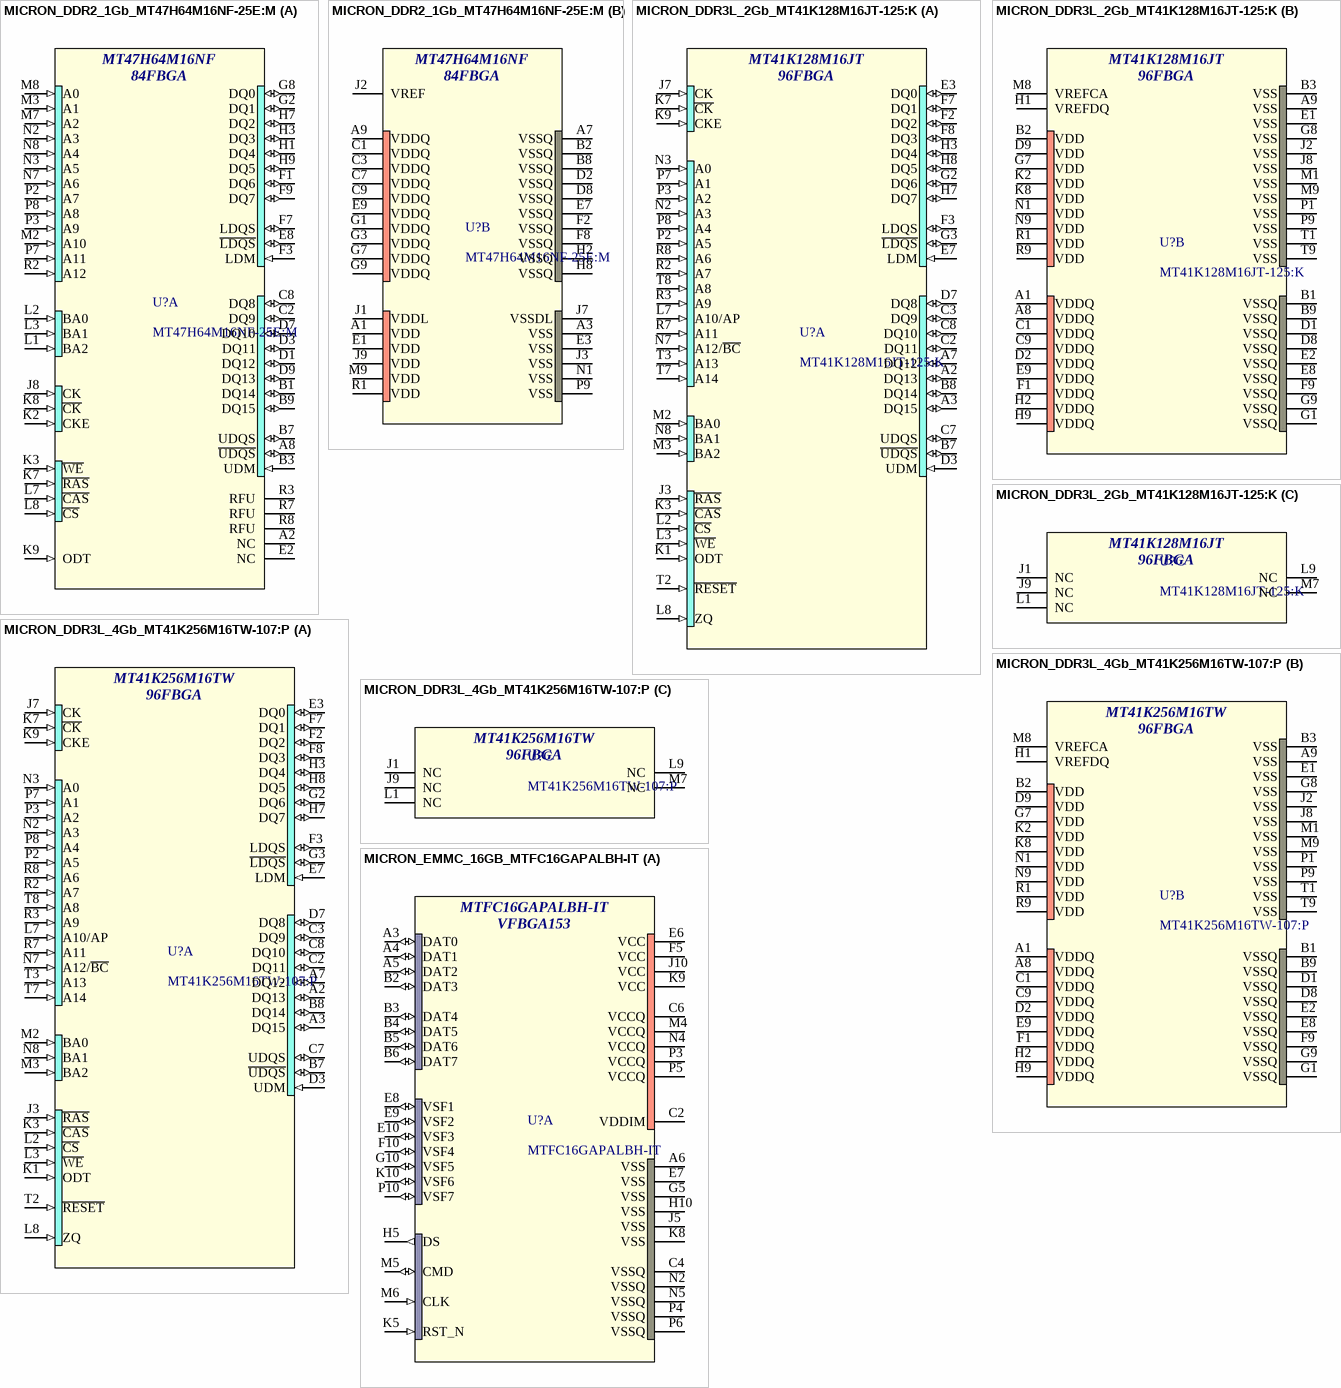
[diagram p14: symbols MICRON_DDR2_1Gb_MT47H64M16NF-25E:M to MICRON_EMMC_16GB_MTFC16GAPALBH-IT]

## MICRON_DDR2_1Gb_MT47H64M16NF-25E:M
designator U?, comment MT47H64M16NF-25E:M
SDRAM - DDR2 Memory IC 1Gbit Parallel 400 MHz 400 ps 84-FBGA (8x12.5); ComponentLink1Description: Digikey; ComponentLink1URL: https://www.digikey.ca/en/products/detail/micron-technology-inc/MT47H64M16NF-25E-M/4747993; ComponentLink2Description: LCSC; ComponentLink2URL: https://jlcpcb.com/partdetail/MicronTech-MT47H64M16NF_25EM/C367427
footprint MICRON_DDR2_1Gb_MT47H64M16NF-25E:M (SDRAM - DDR2 Memory IC 1Gbit Parallel 400 MHz 400 ps 84-FBGA (8x12.5))
part A pins: A2 NC, A8 ~{UDQS} (io), B1 DQ14 (io), B3 UDM (in), B7 UDQS (io), B9 DQ15 (io), C2 DQ9 (io), C8 DQ8 (io), D1 DQ12 (io), D3 DQ11 (io), D7 DQ10 (io), D9 DQ13 (io), E2 NC, E8 ~{LDQS} (io), F1 DQ6 (io), F3 LDM (in), F7 LDQS (io), F9 DQ7 (io), G2 DQ1 (io), G8 DQ0 (io), H1 DQ4 (io), H3 DQ3 (io), H7 DQ2 (io), H9 DQ5 (io), J8 CK (in), K2 CKE (in), K3 ~{WE} (in), K7 ~{RAS} (in), K8 ~{CK} (in), K9 ODT (in), L1 BA2 (in), L2 BA0 (in), L3 BA1 (in), L7 ~{CAS} (in), L8 ~{CS} (in), M2 A10 (in), M3 A1 (in), M7 A2 (in), M8 A0 (in), N2 A3 (in), N3 A5 (in), N7 A6 (in), N8 A4 (in), P2 A7 (in), P3 A9 (in), P7 A11 (in), P8 A8 (in), R2 A12 (in), R3 RFU, R7 RFU, R8 RFU
part B pins: A1 VDD (power), A3 VSS (power), A7 VSSQ (power), A9 VDDQ (power), B2 VSSQ (power), B8 VSSQ (power), C1 VDDQ (power), C3 VDDQ (power), C7 VDDQ (power), C9 VDDQ (power), D2 VSSQ (power), D8 VSSQ (power), E1 VDD (power), E3 VSS (power), E7 VSSQ (power), E9 VDDQ (power), F2 VSSQ (power), F8 VSSQ (power), G1 VDDQ (power), G3 VDDQ (power), G7 VDDQ (power), G9 VDDQ (power), H2 VSSQ (power), H8 VSSQ (power), J1 VDDL (power), J2 VREF (power), J3 VSS (power), J7 VSSDL (power), J9 VDD (power), M9 VDD (power), N1 VSS (power), P9 VSS (power), R1 VDD (power)
part A text: MT47H64M16NF; 84FBGA
part B text: MT47H64M16NF; 84FBGA

## MICRON_DDR3L_2Gb_MT41K128M16JT-125:K
designator U?, comment MT41K128M16JT-125:K
SDRAM - DDR3L Memory IC 2Gbit Parallel 800 MHz 13.75 ns 96-FBGA (8x14); ComponentLink1Description: Digikey; ComponentLink1URL: https://www.digikey.ca/en/products/detail/micron-technology-inc/MT41K128M16JT-125-K/4315797; ComponentLink2Description: Mouser; ComponentLink2URL: https://www.mouser.ca/ProductDetail/Micron/MT41K128M16JT-125-ITK-TR?qs=taEdVNyAfdHrOeT4tEa4mg%3D%3D; ComponentLink3Description: Datasheet; ComponentLink3URL: https://www.micron.com/content/dam/micron/global/secure/products/data-sheet/dram/ddr3/2gb-1-35v-ddr3l.pdf; ComponentLink4Description: LCSC; ComponentLink4URL: https://jlcpcb.com/partdetail/MicronTech-MT41K128M16JT_125k/C36513
footprint MICRON_DDR3L_2Gb_MT41K128M16JT-125:K (SDRAM - DDR3L Memory IC 2Gbit Parallel 800 MHz 13.75 ns 96-FBGA (8x14))
part A pins: A2 DQ13 (io), A3 DQ15 (io), A7 DQ12 (io), B7 ~{UDQS} (io), B8 DQ14 (io), C2 DQ11 (io), C3 DQ9 (io), C7 UDQS (io), C8 DQ10 (io), D3 UDM (in), D7 DQ8 (io), E3 DQ0 (io), E7 LDM (in), F2 DQ2 (io), F3 LDQS (io), F7 DQ1 (io), F8 DQ3 (io), G2 DQ6 (io), G3 ~{LDQS} (io), H3 DQ4 (io), H7 DQ7 (io), H8 DQ5 (io), J3 ~{RAS} (in), J7 CK (in), K1 ODT (in), K3 ~{CAS} (in), K7 ~{CK} (in), K9 CKE (in), L2 ~{CS} (in), L3 ~{WE} (in), L7 A10/AP (in), L8 ZQ (in), M2 BA0 (in), M3 BA2 (in), N2 A3 (in), N3 A0 (in), N7 A12/~{BC} (in), N8 BA1 (in), P2 A5 (in), P3 A2 (in), P7 A1 (in), P8 A4 (in), R2 A7 (in), R3 A9 (in), R7 A11 (in), R8 A6 (in), T2 ~{RESET} (in), T3 A13 (in), T7 A14 (in), T8 A8 (in)
part B pins: A1 VDDQ (power), A8 VDDQ (power), A9 VSS (power), B1 VSSQ (power), B2 VDD (power), B3 VSS (power), B9 VSSQ (power), C1 VDDQ (power), C9 VDDQ (power), D1 VSSQ (power), D2 VDDQ (power), D8 VSSQ (power), D9 VDD (power), E1 VSS (power), E2 VSSQ (power), E8 VSSQ (power), E9 VDDQ (power), F1 VDDQ (power), F9 VSSQ (power), G1 VSSQ (power), G7 VDD (power), G8 VSS (power), G9 VSSQ (power), H1 VREFDQ (power), H2 VDDQ (power), H9 VDDQ (power), J2 VSS (power), J8 VSS (power), K2 VDD (power), K8 VDD (power), M1 VSS (power), M8 VREFCA (power), M9 VSS (power), N1 VDD (power), N9 VDD (power), P1 VSS (power), P9 VSS (power), R1 VDD (power), R9 VDD (power), T1 VSS (power), T9 VSS (power)
part C pins: J1 NC, J9 NC, L1 NC, L9 NC, M7 NC
part A text: MT41K128M16JT; 96FBGA
part B text: MT41K128M16JT; 96FBGA
part C text: MT41K128M16JT; 96FBGA

## MICRON_DDR3L_4Gb_MT41K256M16TW-107:P
designator U?, comment MT41K256M16TW-107:P
SDRAM - DDR3L Memory IC 4Gbit Parallel 933 MHz 20 ns 96-FBGA (8x14); ComponentLink1Description: Digikey; ComponentLink1URL: https://www.digikey.ca/en/products/detail/micron-technology-inc/MT41K256M16TW-107-P/5956623; ComponentLink2Description: Mouser; ComponentLink2URL: https://www.mouser.ca/ProductDetail/Micron/MT41K256M16TW-107P?qs=rrS6PyfT74eHnbmAfGvzkQ%3D%3D; ComponentLink3Description: Datasheet; ComponentLink3URL: https://mm.digikey.com/Volume0/opasdata/d220001/medias/docus/6128/MT41K1G4_MT41K512M8_MT41K256M16_RevR_Sep2018.pdf; ComponentLink4Description: LCSC; ComponentLink4URL: https://jlcpcb.com/partdetail/MicronTech-MT41K256M16TW_107P/C253882
footprint MICRON_DDR3L_4Gb_MT41K256M16TW-107:P (SDRAM - DDR3L Memory IC 4Gbit Parallel 933 MHz 20 ns 96-FBGA (8x14))
part A pins: A2 DQ13 (io), A3 DQ15 (io), A7 DQ12 (io), B7 ~{UDQS} (io), B8 DQ14 (io), C2 DQ11 (io), C3 DQ9 (io), C7 UDQS (io), C8 DQ10 (io), D3 UDM (in), D7 DQ8 (io), E3 DQ0 (io), E7 LDM (in), F2 DQ2 (io), F3 LDQS (io), F7 DQ1 (io), F8 DQ3 (io), G2 DQ6 (io), G3 ~{LDQS} (io), H3 DQ4 (io), H7 DQ7 (io), H8 DQ5 (io), J3 ~{RAS} (in), J7 CK (in), K1 ODT (in), K3 ~{CAS} (in), K7 ~{CK} (in), K9 CKE (in), L2 ~{CS} (in), L3 ~{WE} (in), L7 A10/AP (in), L8 ZQ (in), M2 BA0 (in), M3 BA2 (in), N2 A3 (in), N3 A0 (in), N7 A12/~{BC} (in), N8 BA1 (in), P2 A5 (in), P3 A2 (in), P7 A1 (in), P8 A4 (in), R2 A7 (in), R3 A9 (in), R7 A11 (in), R8 A6 (in), T2 ~{RESET} (in), T3 A13 (in), T7 A14 (in), T8 A8 (in)
part B pins: A1 VDDQ (power), A8 VDDQ (power), A9 VSS (power), B1 VSSQ (power), B2 VDD (power), B3 VSS (power), B9 VSSQ (power), C1 VDDQ (power), C9 VDDQ (power), D1 VSSQ (power), D2 VDDQ (power), D8 VSSQ (power), D9 VDD (power), E1 VSS (power), E2 VSSQ (power), E8 VSSQ (power), E9 VDDQ (power), F1 VDDQ (power), F9 VSSQ (power), G1 VSSQ (power), G7 VDD (power), G8 VSS (power), G9 VSSQ (power), H1 VREFDQ (power), H2 VDDQ (power), H9 VDDQ (power), J2 VSS (power), J8 VSS (power), K2 VDD (power), K8 VDD (power), M1 VSS (power), M8 VREFCA (power), M9 VSS (power), N1 VDD (power), N9 VDD (power), P1 VSS (power), P9 VSS (power), R1 VDD (power), R9 VDD (power), T1 VSS (power), T9 VSS (power)
part C pins: J1 NC, J9 NC, L1 NC, L9 NC, M7 NC
part A text: MT41K256M16TW; 96FBGA
part B text: MT41K256M16TW; 96FBGA
part C text: MT41K256M16TW; 96FBGA

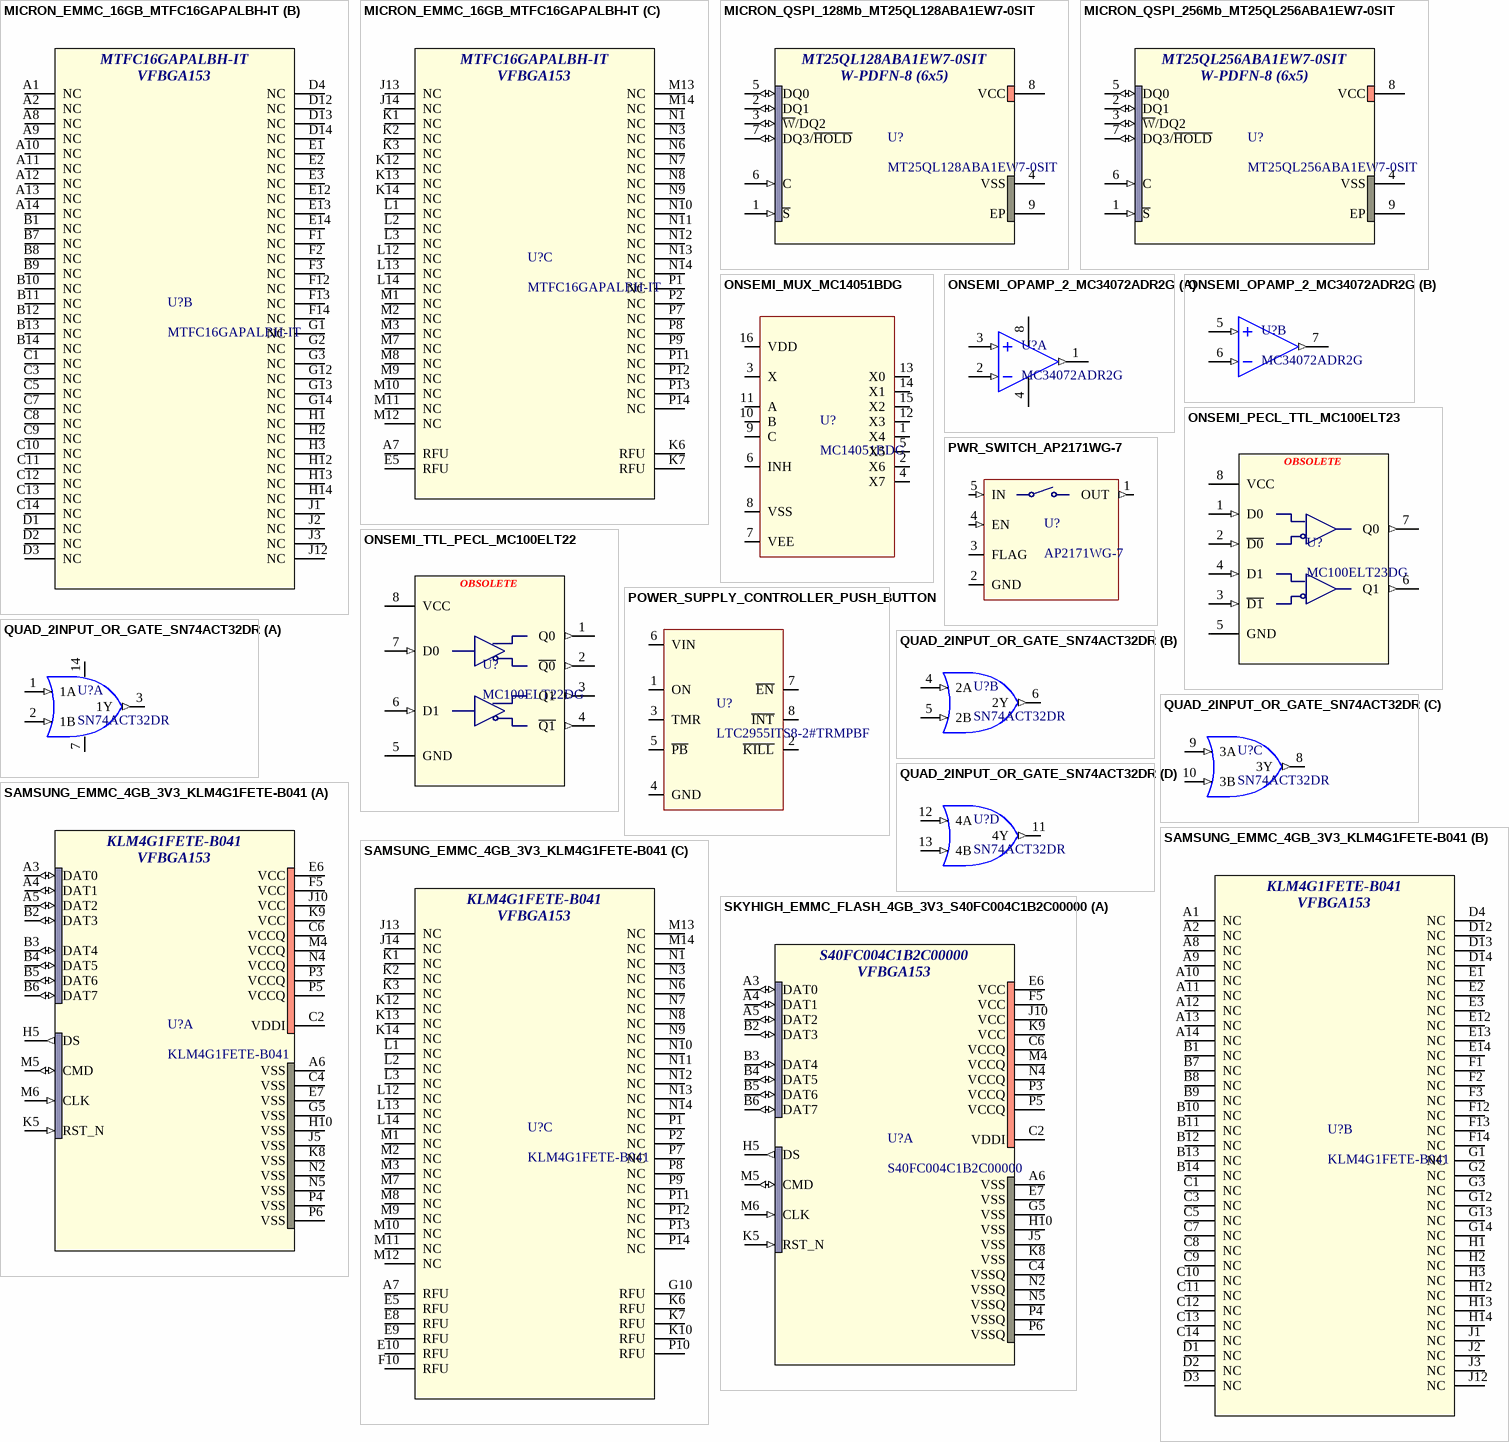
[diagram p15: symbols MICRON_EMMC_16GB_MTFC16GAPALBH-IT to SKYHIGH_EMMC_FLASH_4GB_3V3_S40FC004C1B2C00000]

## MICRON_EMMC_16GB_MTFC16GAPALBH-IT
designator U?, comment MTFC16GAPALBH-IT
FLASH - NAND Memory IC 128Gbit MMC 153-TFBGA (11.5x13); ComponentLink1Description: Digikey; ComponentLink1URL: https://www.digikey.com/en/products/detail/micron-technology-inc/MTFC16GAPALBH-IT/10321343; ComponentLink2Description: Datasheet; ComponentLink2URL: https://mm.digikey.com/Volume0/opasdata/d220001/medias/docus/8719/emmc-industrial-8-128gb-v5-1%20%281%29.pdf; ComponentLink3Description: LCSC; ComponentLink3URL: https://jlcpcb.com/partdetail/MicronTech-MTFC16GAPALBHIT/C426884
footprint MICRON_EMMC_16GB_MTFC16GAPALBH-IT (FLASH - NAND Memory IC 128Gbit MMC 153-TFBGA (11.5x13))
part A pins: A3 DAT0 (io), A4 DAT1 (io), A5 DAT2 (io), A6 VSS (power), B2 DAT3 (io), B3 DAT4 (io), B4 DAT5 (io), B5 DAT6 (io), B6 DAT7 (io), C2 VDDIM (power), C4 VSSQ (power), C6 VCCQ (power), E6 VCC (power), E7 VSS (power), E8 VSF1 (io), E9 VSF2 (io), E10 VSF3 (io), F5 VCC (power), F10 VSF4 (io), G5 VSS (power), G10 VSF5 (io), H5 DS (out), H10 VSS (power), J5 VSS (power), J10 VCC (power), K5 RST_N (in), K8 VSS (power), K9 VCC (power), K10 VSF6 (io), M4 VCCQ (power), M5 CMD (io), M6 CLK (in), N2 VSSQ (power), N4 VCCQ (power), N5 VSSQ (power), P3 VCCQ (power), P4 VSSQ (power), P5 VCCQ (power), P6 VSSQ (power), P10 VSF7 (io)
part B pins: A1 NC, A2 NC, A8 NC, A9 NC, A10 NC, A11 NC, A12 NC, A13 NC, A14 NC, B1 NC, B7 NC, B8 NC, B9 NC, B10 NC, B11 NC, B12 NC, B13 NC, B14 NC, C1 NC, C3 NC, C5 NC, C7 NC, C8 NC, C9 NC, C10 NC, C11 NC, C12 NC, C13 NC, C14 NC, D1 NC, D2 NC, D3 NC, D4 NC, D12 NC, D13 NC, D14 NC, E1 NC, E2 NC, E3 NC, E12 NC, E13 NC, E14 NC, F1 NC, F2 NC, F3 NC, F12 NC, F13 NC, F14 NC, G1 NC, G2 NC, G3 NC, G12 NC, G13 NC, G14 NC, H1 NC, H2 NC, H3 NC, H12 NC, H13 NC, H14 NC, J1 NC, J2 NC, J3 NC, J12 NC
part C pins: A7 RFU, E5 RFU, J13 NC, J14 NC, K1 NC, K2 NC, K3 NC, K6 RFU, K7 RFU, K12 NC, K13 NC, K14 NC, L1 NC, L2 NC, L3 NC, L12 NC, L13 NC, L14 NC, M1 NC, M2 NC, M3 NC, M7 NC, M8 NC, M9 NC, M10 NC, M11 NC, M12 NC, M13 NC, M14 NC, N1 NC, N3 NC, N6 NC, N7 NC, N8 NC, N9 NC, N10 NC, N11 NC, N12 NC, N13 NC, N14 NC, P1 NC, P2 NC, P7 NC, P8 NC, P9 NC, P11 NC, P12 NC, P13 NC, P14 NC
part A text: VFBGA153
part B text: VFBGA153
part C text: VFBGA153

## MICRON_QSPI_128Mb_MT25QL128ABA1EW7-0SIT
designator U?, comment MT25QL128ABA1EW7-0SIT
FLASH - NOR Memory IC 128Mbit SPI - Quad I/O 133 MHz 8-WPDFN (6x5)(MLP8); ComponentLink1Description: Digikey; ComponentLink1URL: https://www.digikey.ca/en/products/detail/micron-technology-inc/MT25QL128ABA1EW7-0SIT-TR/6622727; ComponentLink2Description: Datasheet; ComponentLink2URL: https://www.mouser.com/datasheet/2/671/MT25Q_QLHS_L_128_ABA_0-1287003.pdf; ComponentLink3Description: LCSC; ComponentLink3URL: https://jlcpcb.com/partdetail/MicronTech-MT25QL128ABA1EW70SIT/C2887898
footprint MICRON_QSPI_128Mb_MT25QL128ABA1EW7-0SIT - duplicate (FLASH - NOR Memory IC 128Mbit SPI - Quad I/O 133 MHz 8-WPDFN (6x5)(MLP8))
pins: 1 ~{S} (in), 2 DQ1 (io), 3 ~{W}/DQ2 (io), 4 VSS (power), 5 DQ0 (io), 6 C (in), 7 DQ3/~{HOLD} (io), 8 VCC (power), 9 EP (power)
text: W-PDFN-8 (6x5)

## MICRON_QSPI_256Mb_MT25QL256ABA1EW7-0SIT
designator U?, comment MT25QL256ABA1EW7-0SIT
FLASH - NOR Memory IC 256Mbit SPI - Quad I/O 133 MHz 8-WPDFN (6x5)(MLP8); ComponentLink1Description: Digikey; ComponentLink1URL: https://www.digikey.ca/en/products/detail/micron-technology-inc/MT25QL256ABA1EW7-0SIT-TR/8537497; ComponentLink2Description: Datasheet; ComponentLink2URL: https://mm.digikey.com/Volume0/opasdata/d220001/medias/docus/6657/MT25QL256ABA8ESF-0SIT.pdf; ComponentLink3Description: LCSC; ComponentLink3URL: https://jlcpcb.com/partdetail/MicronTech-MT25QL256ABA1EW7_0SITTR/C2062650
footprint MICRON_QSPI_256Mb_MT25QL256ABA1EW7-0SIT (FLASH - NOR Memory IC 256Mbit SPI - Quad I/O 133 MHz 8-WPDFN (6x5)(MLP8)8))
pins: 1 ~{S} (in), 2 DQ1 (io), 3 ~{W}/DQ2 (io), 4 VSS (power), 5 DQ0 (io), 6 C (in), 7 DQ3/~{HOLD} (io), 8 VCC (power), 9 EP (power)
text: W-PDFN-8 (6x5)

## ONSEMI_MUX_MC14051BDG
designator U?, comment MC14051BDG
1 Circuit IC Switch 8:1 280Ohm 16-SOIC; ComponentLink1Description: Digikey; ComponentLink1URL: https://www.digikey.com/en/products/detail/onsemi/MC14051BDG/1478749; ComponentLink2Description: Datasheet; ComponentLink2URL: https://www.onsemi.com/pdf/datasheet/mc14051b-d.pdf
footprint SOIC-16
pins: 1 X4, 2 X6, 3 X, 4 X7, 5 X5, 6 INH, 7 VEE, 8 VSS, 9 C, 10 B, 11 A, 12 X3, 13 X0, 14 X1, 15 X2, 16 VDD

## ONSEMI_OPAMP_2_MC34072ADR2G
designator U?, comment MC34072ADR2G
Standard (General Purpose) Amplifier 2 Circuit Single-Ended 8-SOIC; ComponentLink1Description: Digikey; ComponentLink1URL: https://www.digikey.com/en/products/detail/onsemi/MC34072ADR2G/1479267; ComponentLink2Description: Datasheet; ComponentLink2URL: https://www.onsemi.com/pdf/datasheet/mc34071-d.pdf
part A pins: 1 VOUTA (out), 2 VINA- (in), 3 VINA+ (in), 4 VSS (power), 8 VDD (power)
part B pins: 5 VINB+ (in), 6 VINB- (in), 7 VOUTB (out)

## ONSEMI_PECL_TTL_MC100ELT23
designator U?, comment MC100ELT23DG
Mixed Signal Translator Unidirectional 2 Circuit 2 Channel 8-SOIC; ComponentLink1Description: Digikey; ComponentLink1URL: https://www.digikey.com/en/products/detail/onsemi/MC100ELT23DG/918691?s=N4IgTCBcDaILIGECMAGFBRAMgFTAZgBEBxEAXQF8g; ComponentLink2Description: Datasheet; ComponentLink2URL: https://www.mouser.com/datasheet/2/308/mc100elt23-d-302125.pdf
footprint SOIC-8 (1.27mm pitch)
pins: 1 D0 (in), 2 ~{D0} (in), 3 ~{D1} (in), 4 D1 (in), 5 GND (power), 6 Q1 (out), 7 Q0 (out), 8 VCC (power)
text: OBSOLETE

## ONSEMI_TTL_PECL_MC100ELT22
designator U?, comment MC100ELT22DG
Mixed Signal Translator Unidirectional 1 Circuit 2 Channel 8-SOIC; ComponentLink1Description: Digikey; ComponentLink1URL: https://www.digikey.com/en/products/detail/onsemi/MC100ELT22DG/918690; ComponentLink2Description: Datasheet; ComponentLink2URL: https://www.mouser.com/datasheet/2/308/mc10elt22-d-1193176.pdf
footprint SOIC-8 (1.27mm pitch)
pins: 1 Q0 (out), 2 ~{Q0} (out), 3 Q1 (out), 4 ~{Q1} (out), 5 GND (power), 6 D1 (in), 7 D0 (in), 8 VCC (power)
text: OBSOLETE

## POWER_SUPPLY_CONTROLLER_PUSH_BUTTON
designator U?, comment LTC2955ITS8-2#TRMPBF
Power Supply Controller Push Button, On/Off Controller TSOT-23-8; ComponentLink1Description: Digikey; ComponentLink1URL: https://www.digikey.com/en/products/detail/analog-devices-inc/LTC2955ITS8-2-TRMPBF/3065181; ComponentLink2Description: Datasheet; ComponentLink2URL: https://www.analog.com/media/en/technical-documentation/data-sheets/2955fa.pdf
footprint TSOT-23-8_LTC2955ITS8-2#TRMPBF (Power Supply Controller Push Button, On/Off Controller TSOT-23-8)
pins: 1 ON, 2 ~{KILL}, 3 TMR, 4 GND, 5 ~{PB}, 6 VIN, 7 ~{EN}, 8 ~{INT}

## PWR_SWITCH_AP2171WG-7
designator U?, comment AP2171WG-7
Power Switch/Driver 1:1 P-Channel 1A SOT-25; ComponentLink1Description: Digikey; ComponentLink1URL: https://www.digikey.ca/en/products/detail/diodes-incorporated/AP2171WG-7/1964664; ComponentLink2Description: Datasheet; ComponentLink2URL: https://www.diodes.com/assets/Datasheets/AP2161_71.pdf
footprint SOT-25_AP2171WG-7 (Power Switch/Driver 1:1 P-Channel 1A SOT-25)
pins: 1 OUT (out), 2 GND (power), 3 FLAG, 4 EN (in), 5 IN (in)

## QUAD_2INPUT_OR_GATE_SN74ACT32DR
designator U?, comment SN74ACT32DR
OR Gate IC 4 Channel 14-SOIC; ComponentLink1Description: Digikey; ComponentLink1URL: https://www.digikey.com/en/products/detail/texas-instruments/SN74ACT32DR/276718; ComponentLink2Description: Datasheet; ComponentLink2URL: https://www.ti.com/general/docs/suppproductinfo.tsp?distId=10&gotoUrl=https%3A%2F%2Fwww.ti.com%2Flit%2Fgpn%2Fsn74act32
footprint SOIC-14_SN74ACT32DR (OR Gate IC 4 Channel 14-SOIC)
part A pins: 1 1A (in), 2 1B (in), 3 1Y (out), 7 GND (power), 14 VCC (power)
part B pins: 4 2A (in), 5 2B (in), 6 2Y (out)
part C pins: 8 3Y (out), 9 3A (in), 10 3B (in)
part D pins: 11 4Y (out), 12 4A (in), 13 4B (in)

## SAMSUNG_EMMC_4GB_3V3_KLM4G1FETE-B041
designator U?, comment KLM4G1FETE-B041
FLASH - NAND Memory IC 4GByte (NAND) eMMC_5.1; ComponentLink1Description: Mouser; ComponentLink1URL: https://www.digikey.ca/en/products/detail/arcotek/KLM4G1FETE-B041/26741151; ComponentLink2Description: Datasheet; ComponentLink2URL: https://xonstorage.z8.web.core.windows.net/pdf/samsung_klm4g1feteb041_xonjuly20_20_link.pdf; ComponentLink3Description: LCSC; ComponentLink3URL: https://jlcpcb.com/partdetail/Samsung-KLM4G1FETEB041/C500273
footprint SAMSUNG_EMMC_4GB_3V3_KLM4G1FETE-B041 (FLASH - NAND Memory IC 4GByte (NAND) eMMC_5.1)
part A pins: A3 DAT0 (io), A4 DAT1 (io), A5 DAT2 (io), A6 VSS (power), B2 DAT3 (io), B3 DAT4 (io), B4 DAT5 (io), B5 DAT6 (io), B6 DAT7 (io), C2 VDDI (power), C4 VSS (power), C6 VCCQ (power), E6 VCC (power), E7 VSS (power), F5 VCC (power), G5 VSS (power), H5 DS (out), H10 VSS (power), J5 VSS (power), J10 VCC (power), K5 RST_N (in), K8 VSS (power), K9 VCC (power), M4 VCCQ (power), M5 CMD (io), M6 CLK (in), N2 VSS (power), N4 VCCQ (power), N5 VSS (power), P3 VCCQ (power), P4 VSS (power), P5 VCCQ (power), P6 VSS (power)
part B pins: A1 NC, A2 NC, A8 NC, A9 NC, A10 NC, A11 NC, A12 NC, A13 NC, A14 NC, B1 NC, B7 NC, B8 NC, B9 NC, B10 NC, B11 NC, B12 NC, B13 NC, B14 NC, C1 NC, C3 NC, C5 NC, C7 NC, C8 NC, C9 NC, C10 NC, C11 NC, C12 NC, C13 NC, C14 NC, D1 NC, D2 NC, D3 NC, D4 NC, D12 NC, D13 NC, D14 NC, E1 NC, E2 NC, E3 NC, E12 NC, E13 NC, E14 NC, F1 NC, F2 NC, F3 NC, F12 NC, F13 NC, F14 NC, G1 NC, G2 NC, G3 NC, G12 NC, G13 NC, G14 NC, H1 NC, H2 NC, H3 NC, H12 NC, H13 NC, H14 NC, J1 NC, J2 NC, J3 NC, J12 NC
part C pins: A7 RFU, E5 RFU, E8 RFU, E9 RFU, E10 RFU, F10 RFU, G10 RFU, J13 NC, J14 NC, K1 NC, K2 NC, K3 NC, K6 RFU, K7 RFU, K10 RFU, K12 NC, K13 NC, K14 NC, L1 NC, L2 NC, L3 NC, L12 NC, L13 NC, L14 NC, M1 NC, M2 NC, M3 NC, M7 NC, M8 NC, M9 NC, M10 NC, M11 NC, M12 NC, M13 NC, M14 NC, N1 NC, N3 NC, N6 NC, N7 NC, N8 NC, N9 NC, N10 NC, N11 NC, N12 NC, N13 NC, N14 NC, P1 NC, P2 NC, P7 NC, P8 NC, P9 NC, P10 RFU, P11 NC, P12 NC, P13 NC, P14 NC
part A text: VFBGA153
part B text: VFBGA153
part C text: VFBGA153

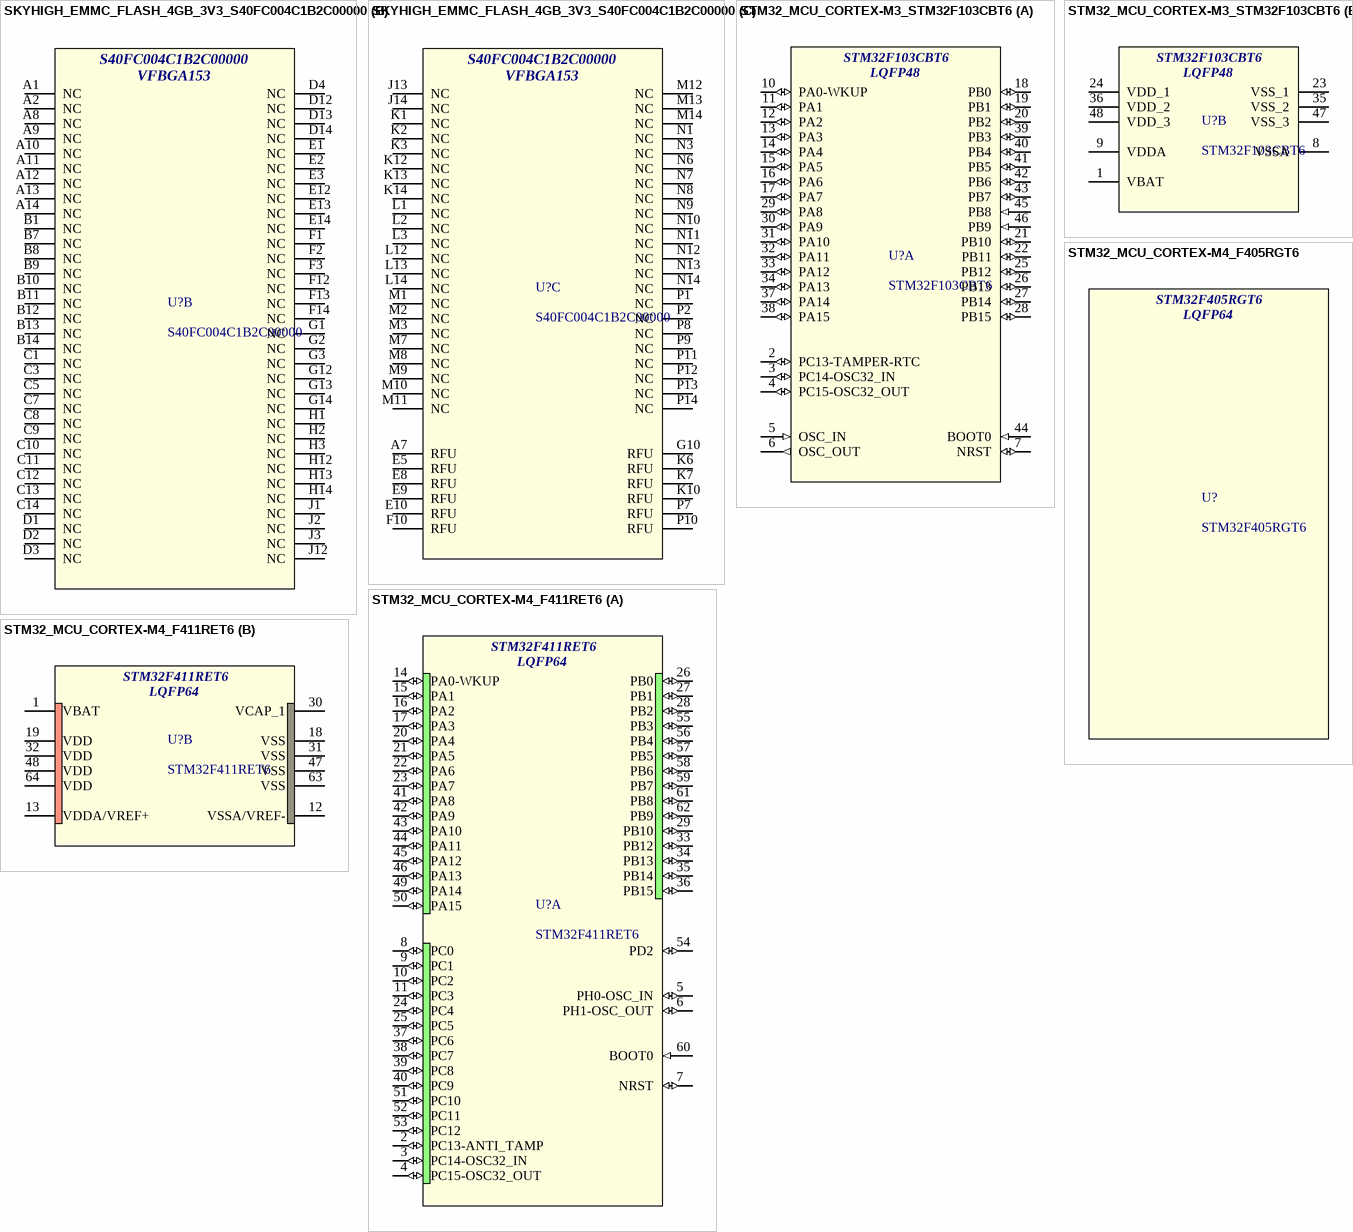
[diagram p16: symbols SKYHIGH_EMMC_FLASH_4GB_3V3_S40FC004C1B2C00000 to STM32_MCU_CORTEX-M4_F411RET6]

## SKYHIGH_EMMC_FLASH_4GB_3V3_S40FC004C1B2C00000
designator U?, comment S40FC004C1B2C00000
4GB, 3.3 V, eMMC Flash VFBGA153 9.0 x 7.5 x 0.8 mm; ComponentLink1Description: Mouser; ComponentLink1URL: https://www.mouser.ca/ProductDetail/SkyHigh-Memory/S40FC004C1B2C00000?qs=OlC7AqGiEDnnqQ4BF5kidg%3D%3D; ComponentLink2Description: Datasheet; ComponentLink2URL: https://www.mouser.com/catalog/specsheets/SkyHigh%20Memory%204GB_153%20ball%20VFBGA_eMMC_5.1_Data%20Sheet.pdf
footprint SKYHIGH_EMMC_FLASH_4GB_3V3_S40FC004C1B2C00000 (4GB, 3.3 V, eMMC Flash VFBGA153 9.0 x 7.5 x 0.8 mm)
part A pins: A3 DAT0 (io), A4 DAT1 (io), A5 DAT2 (io), A6 VSS (power), B2 DAT3 (io), B3 DAT4 (io), B4 DAT5 (io), B5 DAT6 (io), B6 DAT7 (io), C2 VDDI (power), C4 VSSQ (power), C6 VCCQ (power), E6 VCC (power), E7 VSS (power), F5 VCC (power), G5 VSS (power), H5 DS (out), H10 VSS (power), J5 VSS (power), J10 VCC (power), K5 RST_N (in), K8 VSS (power), K9 VCC (power), M4 VCCQ (power), M5 CMD (io), M6 CLK (in), N2 VSSQ (power), N4 VCCQ (power), N5 VSSQ (power), P3 VCCQ (power), P4 VSSQ (power), P5 VCCQ (power), P6 VSSQ (power)
part B pins: A1 NC, A2 NC, A8 NC, A9 NC, A10 NC, A11 NC, A12 NC, A13 NC, A14 NC, B1 NC, B7 NC, B8 NC, B9 NC, B10 NC, B11 NC, B12 NC, B13 NC, B14 NC, C1 NC, C3 NC, C5 NC, C7 NC, C8 NC, C9 NC, C10 NC, C11 NC, C12 NC, C13 NC, C14 NC, D1 NC, D2 NC, D3 NC, D4 NC, D12 NC, D13 NC, D14 NC, E1 NC, E2 NC, E3 NC, E12 NC, E13 NC, E14 NC, F1 NC, F2 NC, F3 NC, F12 NC, F13 NC, F14 NC, G1 NC, G2 NC, G3 NC, G12 NC, G13 NC, G14 NC, H1 NC, H2 NC, H3 NC, H12 NC, H13 NC, H14 NC, J1 NC, J2 NC, J3 NC, J12 NC
part C pins: A7 RFU, E5 RFU, E8 RFU, E9 RFU, E10 RFU, F10 RFU, G10 RFU, J13 NC, J14 NC, K1 NC, K2 NC, K3 NC, K6 RFU, K7 RFU, K10 RFU, K12 NC, K13 NC, K14 NC, L1 NC, L2 NC, L3 NC, L12 NC, L13 NC, L14 NC, M1 NC, M2 NC, M3 NC, M7 NC, M8 NC, M9 NC, M10 NC, M11 NC, M12 NC, M13 NC, M14 NC, N1 NC, N3 NC, N6 NC, N7 NC, N8 NC, N9 NC, N10 NC, N11 NC, N12 NC, N13 NC, N14 NC, P1 NC, P2 NC, P7 RFU, P8 NC, P9 NC, P10 RFU, P11 NC, P12 NC, P13 NC, P14 NC
part A text: VFBGA153
part B text: VFBGA153
part C text: VFBGA153